# Altium integrated library Lattice CPLD ispMACH.IntLib: 663 symbols (part 12 of 48)
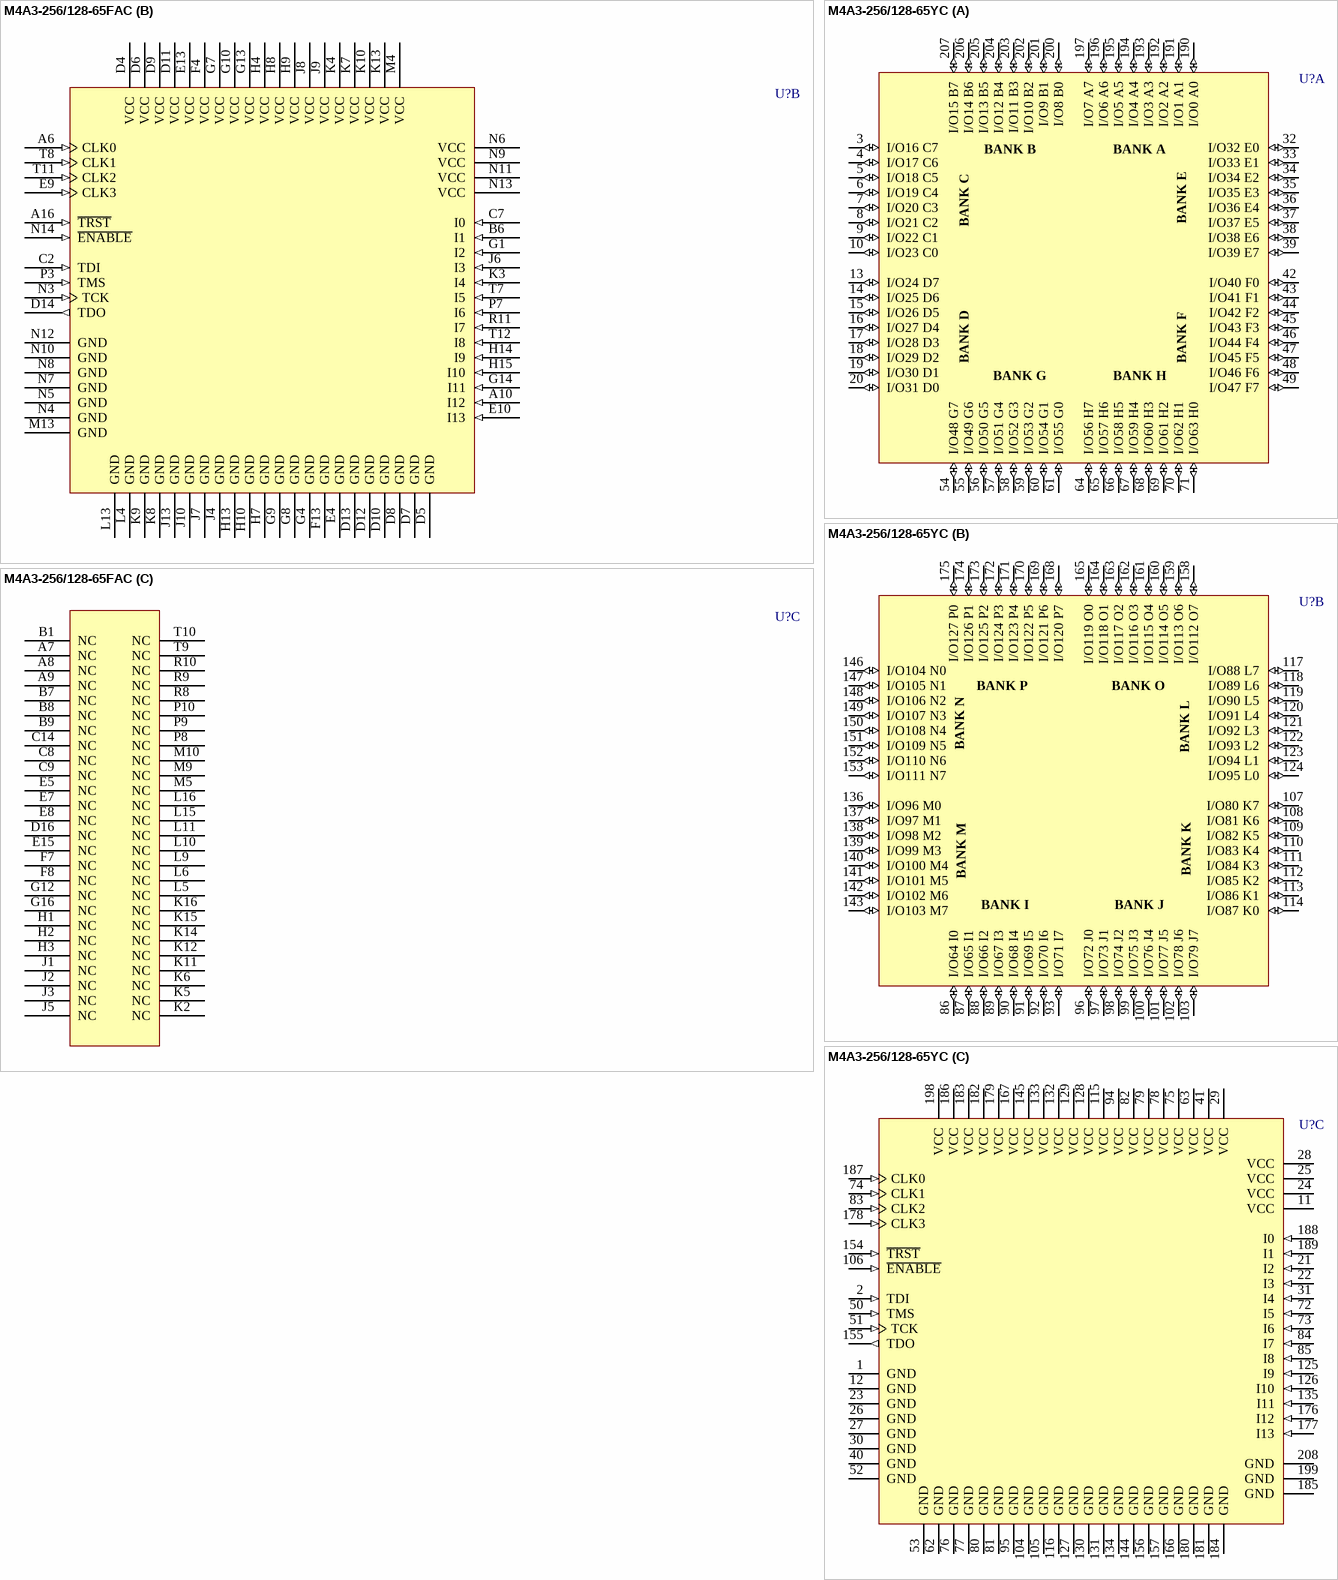
[diagram p317: symbols M4A3-256/128-65FAC to M4A3-256/128-65YC]

## M4A3-256/128-65FAC
designator U?
High-Performance EE CMOS In-System Programmable Logic; Published: 17-Jul-2002; LatestRevisionDate: 13-Apr-2006; LatestRevisionNote: IPC-7351 Footprint Added.; DatasheetVersion: Feb-2001; PackageVersion: pkg_32, Aug-2005; PackageReference: fpBGA256; Publisher: Altium Limited; PackageDescription: 256-Ball Fine Pitch Ball Grid Array (fpBGA256); Code_IPC: BGA100P16X16-256; ComponentLink1Description: Manufacturer Link; ComponentLink1URL: http://www.latticesemi.com/products/mature/index.cfm; ComponentLink2Description: Datasheet; ComponentLink2URL: http://www.latticesemi.com/account/_download.cfm?AMID=1344
footprint fpBGA256 (BGA, 256-Leads, Body 17x17mm, Pitch 1mm)
3D model M4A3-fpBGA256 (256-Ball Fine Pitch Ball Grid Array (fpBGA256))
part A pins: A1 I/O12 B4 (io), A2 I/O10 B2 (io), A3 I/O7 A7 (io), A4 I/O5 A5 (io), A5 I/O1 A1 (io), A11 I/O124 P4 (io), A12 I/O126 P6 (io), A13 I/O113 O1 (io), A14 I/O116 O4 (io), A15 I/O117 O5 (io), B2 I/O13 B5 (io), B3 I/O11 B3 (io), B4 I/O8 B0 (io), B5 I/O2 A2 (io), B10 I/O120 P0 (io), B11 I/O125 P5 (io), B12 I/O127 P7 (io), B13 I/O115 O3 (io), B14 I/O118 O6 (io), B15 I/O111 N7 (io), B16 I/O110 N6 (io), C1 I/O23 C7 (io), C3 I/O14 B6 (io), C4 I/O15 B7 (io), C5 I/O6 A6 (io), C6 I/O4 A4 (io), C10 I/O123 P3 (io), C11 I/O122 P2 (io), C12 I/O114 O2 (io), C13 I/O119 O7 (io), C15 I/O109 N5 (io), C16 I/O108 N4 (io), D1 I/O21 C5 (io), D2 I/O22 C6 (io), D3 I/O9 B1 (io), D15 I/O104 N0 (io), E1 I/O31 D7 (io), E2 I/O19 C3 (io), E3 I/O20 C4 (io), E6 I/O0 A0 (io), E11 I/O106 N2 (io), E12 I/O105 N1 (io), E14 I/O107 N3 (io), E16 I/O102 M6 (io), F1 I/O29 D5 (io), F2 I/O30 D6 (io), F3 I/O16 C0 (io), F5 I/O18 C2 (io), F6 I/O3 A3 (io), F9 I/O121 P1 (io), F10 I/O112 O0 (io), F11 I/O99 M3 (io), F12 I/O100 M4 (io), F14 I/O101 M5 (io), F15 I/O103 M7 (io), F16 I/O98 M2 (io), G2 I/O25 D1 (io), G3 I/O26 D2 (io), G5 I/O28 D4 (io), G6 I/O17 C1 (io), G11 I/O97 M1 (io), G15 I/O96 M0 (io), H5 I/O24 D0 (io), H6 I/O27 D3 (io), H11 I/O90 L2 (io), H12 I/O89 L1 (io), H16 I/O88 L0 (io), J11 I/O94 L6 (io), J12 I/O95 L7 (io), J14 I/O93 L5 (io), J15 I/O92 L4 (io), J16 I/O91 L3 (io), K1 I/O32 E0 (io), L1 I/O33 E1 (io), L2 I/O36 E4 (io), L3 I/O35 E3 (io), L7 I/O61 H5 (io), L8 I/O59 H3 (io), L12 I/O83 K3 (io), L14 I/O80 K0 (io), M1 I/O34 E2 (io), M2 I/O39 E7 (io), M3 I/O44 F4 (io), M6 I/O51 G3 (io), M7 I/O48 G0 (io), M8 I/O58 H2 (io), M11 I/O65 I1 (io), M12 I/O67 I3 (io), M14 I/O84 K4 (io), M15 I/O82 K2 (io), M16 I/O81 K1 (io), N1 I/O37 E5 (io), N2 I/O40 F0 (io), N15 I/O86 K6 (io), N16 I/O85 K5 (io), P1 I/O38 E6 (io), P2 I/O41 F1 (io), P4 I/O55 G7 (io), P5 I/O52 G4 (io), P6 I/O63 H7 (io), P11 I/O66 I2 (io), P12 I/O68 I4 (io), P13 I/O79 J7 (io), P14 I/O78 J6 (io), P15 I/O77 J5 (io), P16 I/O87 K7 (io), R1 I/O42 F2 (io), R2 I/O43 F3 (io), R3 I/O47 F7 (io), R4 I/O53 G5 (io), R5 I/O49 G1 (io), R6 I/O60 H4 (io), R7 I/O56 H0 (io), R12 I/O64 I0 (io), R13 I/O71 I7 (io), R14 I/O72 J0 (io), R15 I/O75 J3 (io), R16 I/O76 J4 (io), T1 I/O45 F5 (io), T2 I/O46 F6 (io), T3 I/O54 G6 (io), T4 I/O50 G2 (io), T5 I/O62 H6 (io), T6 I/O57 H1 (io), T13 I/O69 I5 (io), T14 I/O70 I6 (io), T15 I/O73 J1 (io), T16 I/O74 J2 (io)
part B pins: A6 CLK0 (in), A10 I12 (in), A16 ~{TRST} (in), B6 I1 (in), C2 TDI (in), C7 I0 (in), D4 VCC (power), D5 GND (power), D6 VCC (power), D7 GND (power), D8 GND (power), D9 VCC (power), D10 GND (power), D11 VCC (power), D12 GND (power), D13 GND (power), D14 TDO (out), E4 GND (power), E9 CLK3 (in), E10 I13 (in), E13 VCC (power), F4 VCC (power), F13 GND (power), G1 I2 (in), G4 GND (power), G7 VCC (power), G8 GND (power), G9 GND (power), G10 VCC (power), G13 VCC (power), G14 I11 (in), H4 VCC (power), H7 GND (power), H8 VCC (power), H9 VCC (power), H10 GND (power), H13 GND (power), H14 I9 (in), H15 I10 (in), J4 GND (power), J6 I3 (in), J7 GND (power), J8 VCC (power), J9 VCC (power), J10 GND (power), J13 GND (power), K3 I4 (in), K4 VCC (power), K7 VCC (power), K8 GND (power), K9 GND (power), K10 VCC (power), K13 VCC (power), L4 GND (power), L13 GND (power), M4 VCC (power), M13 GND (power), N3 TCK (in), N4 GND (power), N5 GND (power), N6 VCC (power), N7 GND (power), N8 GND (power), N9 VCC (power), N10 GND (power), N11 VCC (power), N12 GND (power), N13 VCC (power), N14 ~{ENABLE} (in), P3 TMS (in), P7 I6 (in), R11 I7 (in), T7 I5 (in), T8 CLK1 (in), T11 CLK2 (in), T12 I8 (in)
part C pins: A7 NC, A8 NC, A9 NC, B1 NC, B7 NC, B8 NC, B9 NC, C8 NC, C9 NC, C14 NC, D16 NC, E5 NC, E7 NC, E8 NC, E15 NC, F7 NC, F8 NC, G12 NC, G16 NC, H1 NC, H2 NC, H3 NC, J1 NC, J2 NC, J3 NC, J5 NC, K2 NC, K5 NC, K6 NC, K11 NC, K12 NC, K14 NC, K15 NC, K16 NC, L5 NC, L6 NC, L9 NC, L10 NC, L11 NC, L15 NC, L16 NC, M5 NC, M9 NC, M10 NC, P8 NC, P9 NC, P10 NC, R8 NC, R9 NC, R10 NC, T9 NC, T10 NC

## M4A3-256/128-65YC
designator U?
High-Performance EE CMOS In-System Programmable Logic; Published: 17-Jul-2002; LatestRevisionDate: 13-Apr-2006; LatestRevisionNote: IPC-7351 Footprint Added.; DatasheetVersion: Feb-2001; PackageVersion: pkg_32, Aug-2005; PackageReference: PQFP208; Publisher: Altium Limited; PackageDescription: 208-Pin Plastic Quad Flat Pack (PQFP208); Code_JEDEC: MO-143-FAI; ComponentLink1Description: Manufacturer Link; ComponentLink1URL: http://www.latticesemi.com/products/mature/index.cfm; ComponentLink2Description: Datasheet; ComponentLink2URL: http://www.latticesemi.com/account/_download.cfm?AMID=1344
footprint PQFP208_N (Shrink QFP, 208-Leads, Body 28x28mm, Pitch 0.5mm, IPC Medium Density)
footprint PQFP208_L (Shrink QFP, 208-Leads, Body 28x28mm, Pitch 0.5mm, IPC High Density)
footprint PQFP208_M (Shrink QFP, 208-Leads, Body 28x28mm, Pitch 0.5mm, IPC Low Density)
3D model M4A3-PQFP208 (208-Pin Plastic Quad Flat Pack (PQFP208))
part A pins: 3 I/O16 C7 (io), 4 I/O17 C6 (io), 5 I/O18 C5 (io), 6 I/O19 C4 (io), 7 I/O20 C3 (io), 8 I/O21 C2 (io), 9 I/O22 C1 (io), 10 I/O23 C0 (io), 13 I/O24 D7 (io), 14 I/O25 D6 (io), 15 I/O26 D5 (io), 16 I/O27 D4 (io), 17 I/O28 D3 (io), 18 I/O29 D2 (io), 19 I/O30 D1 (io), 20 I/O31 D0 (io), 32 I/O32 E0 (io), 33 I/O33 E1 (io), 34 I/O34 E2 (io), 35 I/O35 E3 (io), 36 I/O36 E4 (io), 37 I/O37 E5 (io), 38 I/O38 E6 (io), 39 I/O39 E7 (io), 42 I/O40 F0 (io), 43 I/O41 F1 (io), 44 I/O42 F2 (io), 45 I/O43 F3 (io), 46 I/O44 F4 (io), 47 I/O45 F5 (io), 48 I/O46 F6 (io), 49 I/O47 F7 (io), 54 I/O48 G7 (io), 55 I/O49 G6 (io), 56 I/O50 G5 (io), 57 I/O51 G4 (io), 58 I/O52 G3 (io), 59 I/O53 G2 (io), 60 I/O54 G1 (io), 61 I/O55 G0 (io), 64 I/O56 H7 (io), 65 I/O57 H6 (io), 66 I/O58 H5 (io), 67 I/O59 H4 (io), 68 I/O60 H3 (io), 69 I/O61 H2 (io), 70 I/O62 H1 (io), 71 I/O63 H0 (io), 190 I/O0 A0 (io), 191 I/O1 A1 (io), 192 I/O2 A2 (io), 193 I/O3 A3 (io), 194 I/O4 A4 (io), 195 I/O5 A5 (io), 196 I/O6 A6 (io), 197 I/O7 A7 (io), 200 I/O8 B0 (io), 201 I/O9 B1 (io), 202 I/O10 B2 (io), 203 I/O11 B3 (io), 204 I/O12 B4 (io), 205 I/O13 B5 (io), 206 I/O14 B6 (io), 207 I/O15 B7 (io)
part B pins: 86 I/O64 I0 (io), 87 I/O65 I1 (io), 88 I/O66 I2 (io), 89 I/O67 I3 (io), 90 I/O68 I4 (io), 91 I/O69 I5 (io), 92 I/O70 I6 (io), 93 I/O71 I7 (io), 96 I/O72 J0 (io), 97 I/O73 J1 (io), 98 I/O74 J2 (io), 99 I/O75 J3 (io), 100 I/O76 J4 (io), 101 I/O77 J5 (io), 102 I/O78 J6 (io), 103 I/O79 J7 (io), 107 I/O80 K7 (io), 108 I/O81 K6 (io), 109 I/O82 K5 (io), 110 I/O83 K4 (io), 111 I/O84 K3 (io), 112 I/O85 K2 (io), 113 I/O86 K1 (io), 114 I/O87 K0 (io), 117 I/O88 L7 (io), 118 I/O89 L6 (io), 119 I/O90 L5 (io), 120 I/O91 L4 (io), 121 I/O92 L3 (io), 122 I/O93 L2 (io), 123 I/O94 L1 (io), 124 I/O95 L0 (io), 136 I/O96 M0 (io), 137 I/O97 M1 (io), 138 I/O98 M2 (io), 139 I/O99 M3 (io), 140 I/O100 M4 (io), 141 I/O101 M5 (io), 142 I/O102 M6 (io), 143 I/O103 M7 (io), 146 I/O104 N0 (io), 147 I/O105 N1 (io), 148 I/O106 N2 (io), 149 I/O107 N3 (io), 150 I/O108 N4 (io), 151 I/O109 N5 (io), 152 I/O110 N6 (io), 153 I/O111 N7 (io), 158 I/O112 O7 (io), 159 I/O113 O6 (io), 160 I/O114 O5 (io), 161 I/O115 O4 (io), 162 I/O116 O3 (io), 163 I/O117 O2 (io), 164 I/O118 O1 (io), 165 I/O119 O0 (io), 168 I/O120 P7 (io), 169 I/O121 P6 (io), 170 I/O122 P5 (io), 171 I/O123 P4 (io), 172 I/O124 P3 (io), 173 I/O125 P2 (io), 174 I/O126 P1 (io), 175 I/O127 P0 (io)
part C pins: 1 GND (power), 2 TDI (in), 11 VCC (power), 12 GND (power), 21 I2 (in), 22 I3 (in), 23 GND (power), 24 VCC (power), 25 VCC (power), 26 GND (power), 27 GND (power), 28 VCC (power), 29 VCC (power), 30 GND (power), 31 I4 (in), 40 GND (power), 41 VCC (power), 50 TMS (in), 51 TCK (in), 52 GND (power), 53 GND (power), 62 GND (power), 63 VCC (power), 72 I5 (in), 73 I6 (in), 74 CLK1 (in), 75 VCC (power), 76 GND (power), 77 GND (power), 78 VCC (power), 79 VCC (power), 80 GND (power), 81 GND (power), 82 VCC (power), 83 CLK2 (in), 84 I7 (in), 85 I8 (in), 94 VCC (power), 95 GND (power), 104 GND (power), 105 GND (power), 106 ~{ENABLE} (in), 115 VCC (power), 116 GND (power), 125 I9 (in), 126 I10 (in), 127 GND (power), 128 VCC (power), 129 VCC (power), 130 GND (power), 131 GND (power), 132 VCC (power), 133 VCC (power), 134 GND (power), 135 I11 (in), 144 GND (power), 145 VCC (power), 154 ~{TRST} (in), 155 TDO (out), 156 GND (power), 157 GND (power), 166 GND (power), 167 VCC (power), 176 I12 (in), 177 I13 (in), 178 CLK3 (in), 179 VCC (power), 180 GND (power), 181 GND (power), 182 VCC (power), 183 VCC (power), 184 GND (power), 185 GND (power), 186 VCC (power), 187 CLK0 (in), 188 I0 (in), 189 I1 (in), 198 VCC (power), 199 GND (power), 208 GND (power)
part A text: BANK B; BANK A; BANK E; BANK C; BANK D; BANK F; BANK G; BANK H
part B text: BANK P; BANK O; BANK N; BANK L; BANK K; BANK M; BANK I; BANK J

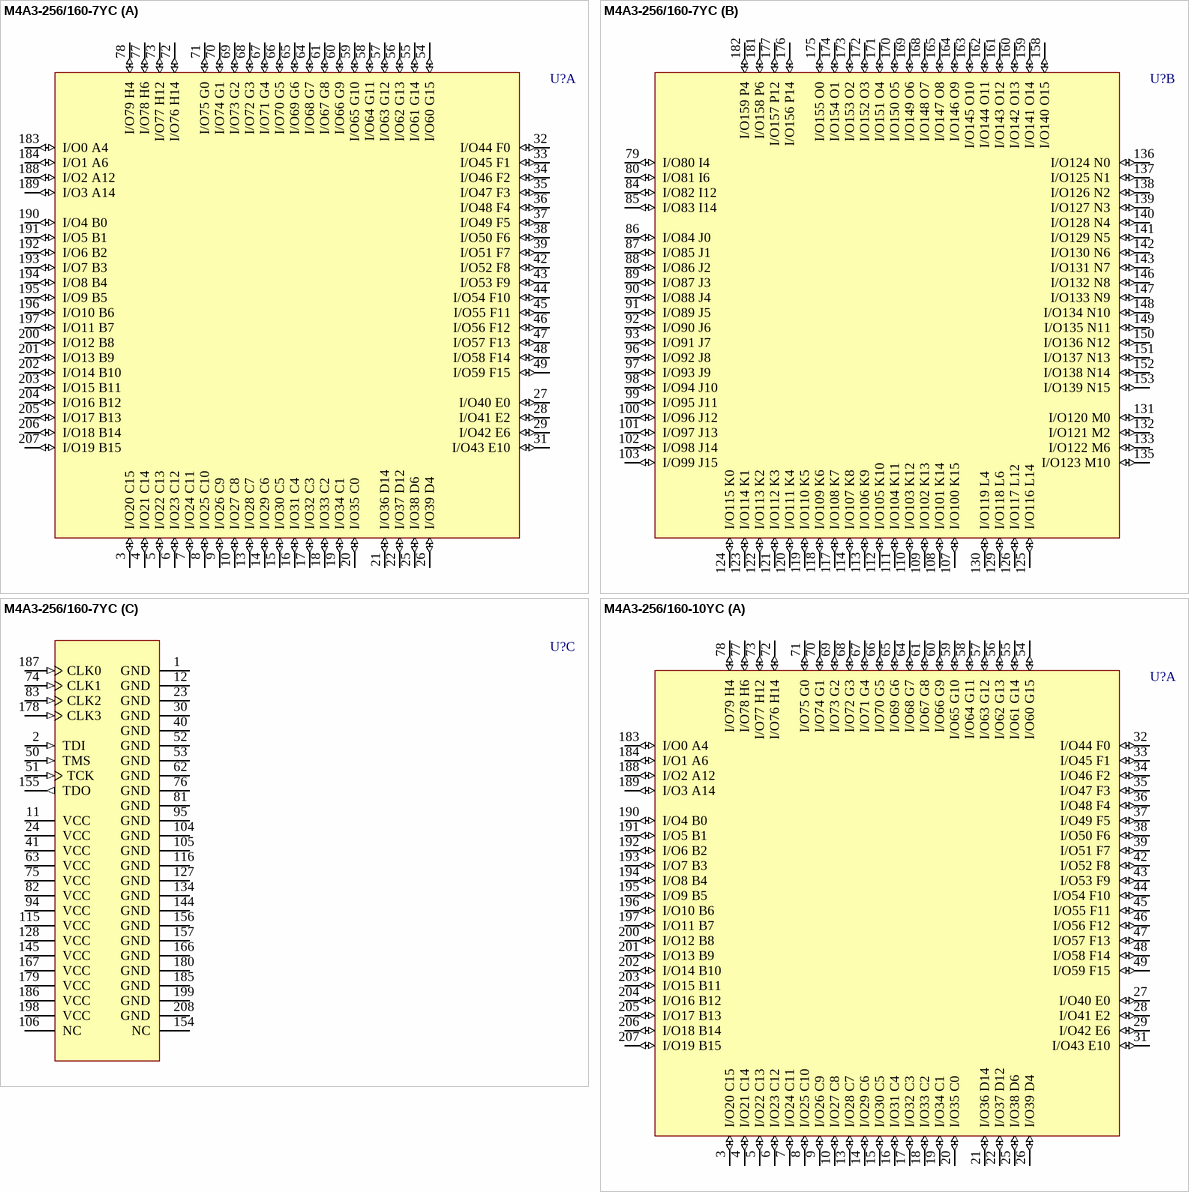
[diagram p70: symbols M4A3-256/160-7YC to M4A3-256/160-10YC]

## M4A3-256/160-7YC
designator U?
High-Performance EE CMOS In-System Programmable Logic; Published: 17-Jul-2002; LatestRevisionDate: 13-Apr-2006; LatestRevisionNote: IPC-7351 Footprint Added.; DatasheetVersion: Feb-2001; PackageVersion: pkg_32, Aug-2005; PackageReference: PQFP208; Publisher: Altium Limited; PackageDescription: 208-Pin Plastic Quad Flat Pack (PQFP208); Code_JEDEC: MO-143-FAI; ComponentLink1Description: Manufacturer Link; ComponentLink1URL: http://www.latticesemi.com/products/mature/index.cfm; ComponentLink2Description: Datasheet; ComponentLink2URL: http://www.latticesemi.com/account/_download.cfm?AMID=1344
footprint PQFP208_N (Shrink QFP, 208-Leads, Body 28x28mm, Pitch 0.5mm, IPC Medium Density)
footprint PQFP208_L (Shrink QFP, 208-Leads, Body 28x28mm, Pitch 0.5mm, IPC High Density)
footprint PQFP208_M (Shrink QFP, 208-Leads, Body 28x28mm, Pitch 0.5mm, IPC Low Density)
3D model M4A3-PQFP208 (208-Pin Plastic Quad Flat Pack (PQFP208))
part A pins: 3 I/O20 C15 (io), 4 I/O21 C14 (io), 5 I/O22 C13 (io), 6 I/O23 C12 (io), 7 I/O24 C11 (io), 8 I/O25 C10 (io), 9 I/O26 C9 (io), 10 I/O27 C8 (io), 13 I/O28 C7 (io), 14 I/O29 C6 (io), 15 I/O30 C5 (io), 16 I/O31 C4 (io), 17 I/O32 C3 (io), 18 I/O33 C2 (io), 19 I/O34 C1 (io), 20 I/O35 C0 (io), 21 I/O36 D14 (io), 22 I/O37 D12 (io), 25 I/O38 D6 (io), 26 I/O39 D4 (io), 27 I/O40 E0 (io), 28 I/O41 E2 (io), 29 I/O42 E6 (io), 31 I/O43 E10 (io), 32 I/O44 F0 (io), 33 I/O45 F1 (io), 34 I/O46 F2 (io), 35 I/O47 F3 (io), 36 I/O48 F4 (io), 37 I/O49 F5 (io), 38 I/O50 F6 (io), 39 I/O51 F7 (io), 42 I/O52 F8 (io), 43 I/O53 F9 (io), 44 I/O54 F10 (io), 45 I/O55 F11 (io), 46 I/O56 F12 (io), 47 I/O57 F13 (io), 48 I/O58 F14 (io), 49 I/O59 F15 (io), 54 I/O60 G15 (io), 55 I/O61 G14 (io), 56 I/O62 G13 (io), 57 I/O63 G12 (io), 58 I/O64 G11 (io), 59 I/O65 G10 (io), 60 I/O66 G9 (io), 61 I/O67 G8 (io), 64 I/O68 G7 (io), 65 I/O69 G6 (io), 66 I/O70 G5 (io), 67 I/O71 G4 (io), 68 I/O72 G3 (io), 69 I/O73 G2 (io), 70 I/O74 G1 (io), 71 I/O75 G0 (io), 72 I/O76 H14 (io), 73 I/O77 H12 (io), 77 I/O78 H6 (io), 78 I/O79 H4 (io), 183 I/O0 A4 (io), 184 I/O1 A6 (io), 188 I/O2 A12 (io), 189 I/O3 A14 (io), 190 I/O4 B0 (io), 191 I/O5 B1 (io), 192 I/O6 B2 (io), 193 I/O7 B3 (io), 194 I/O8 B4 (io), 195 I/O9 B5 (io), 196 I/O10 B6 (io), 197 I/O11 B7 (io), 200 I/O12 B8 (io), 201 I/O13 B9 (io), 202 I/O14 B10 (io), 203 I/O15 B11 (io), 204 I/O16 B12 (io), 205 I/O17 B13 (io), 206 I/O18 B14 (io), 207 I/O19 B15 (io)
part B pins: 79 I/O80 I4 (io), 80 I/O81 I6 (io), 84 I/O82 I12 (io), 85 I/O83 I14 (io), 86 I/O84 J0 (io), 87 I/O85 J1 (io), 88 I/O86 J2 (io), 89 I/O87 J3 (io), 90 I/O88 J4 (io), 91 I/O89 J5 (io), 92 I/O90 J6 (io), 93 I/O91 J7 (io), 96 I/O92 J8 (io), 97 I/O93 J9 (io), 98 I/O94 J10 (io), 99 I/O95 J11 (io), 100 I/O96 J12 (io), 101 I/O97 J13 (io), 102 I/O98 J14 (io), 103 I/O99 J15 (io), 107 I/O100 K15 (io), 108 I/O101 K14 (io), 109 I/O102 K13 (io), 110 I/O103 K12 (io), 111 I/O104 K11 (io), 112 I/O105 K10 (io), 113 I/O106 K9 (io), 114 I/O107 K8 (io), 117 I/O108 K7 (io), 118 I/O109 K6 (io), 119 I/O110 K5 (io), 120 I/O111 K4 (io), 121 I/O112 K3 (io), 122 I/O113 K2 (io), 123 I/O114 K1 (io), 124 I/O115 K0 (io), 125 I/O116 L14 (io), 126 I/O117 L12 (io), 129 I/O118 L6 (io), 130 I/O119 L4 (io), 131 I/O120 M0 (io), 132 I/O121 M2 (io), 133 I/O122 M6 (io), 135 I/O123 M10 (io), 136 I/O124 N0 (io), 137 I/O125 N1 (io), 138 I/O126 N2 (io), 139 I/O127 N3 (io), 140 I/O128 N4 (io), 141 I/O129 N5 (io), 142 I/O130 N6 (io), 143 I/O131 N7 (io), 146 I/O132 N8 (io), 147 I/O133 N9 (io), 148 I/O134 N10 (io), 149 I/O135 N11 (io), 150 I/O136 N12 (io), 151 I/O137 N13 (io), 152 I/O138 N14 (io), 153 I/O139 N15 (io), 158 I/O140 O15 (io), 159 I/O141 O14 (io), 160 I/O142 O13 (io), 161 I/O143 O12 (io), 162 I/O144 O11 (io), 163 I/O145 O10 (io), 164 I/O146 O9 (io), 165 I/O147 O8 (io), 168 I/O148 O7 (io), 169 I/O149 O6 (io), 170 I/O150 O5 (io), 171 I/O151 O4 (io), 172 I/O152 O3 (io), 173 I/O153 O2 (io), 174 I/O154 O1 (io), 175 I/O155 O0 (io), 176 I/O156 P14 (io), 177 I/O157 P12 (io), 181 I/O158 P6 (io), 182 I/O159 P4 (io)
part C pins: 1 GND (power), 2 TDI (in), 11 VCC (power), 12 GND (power), 23 GND (power), 24 VCC (power), 30 GND (power), 40 GND (power), 41 VCC (power), 50 TMS (in), 51 TCK (in), 52 GND (power), 53 GND (power), 62 GND (power), 63 VCC (power), 74 CLK1 (in), 75 VCC (power), 76 GND (power), 81 GND (power), 82 VCC (power), 83 CLK2 (in), 94 VCC (power), 95 GND (power), 104 GND (power), 105 GND (power), 106 NC, 115 VCC (power), 116 GND (power), 127 GND (power), 128 VCC (power), 134 GND (power), 144 GND (power), 145 VCC (power), 154 NC, 155 TDO (out), 156 GND (power), 157 GND (power), 166 GND (power), 167 VCC (power), 178 CLK3 (in), 179 VCC (power), 180 GND (power), 185 GND (power), 186 VCC (power), 187 CLK0 (in), 198 VCC (power), 199 GND (power), 208 GND (power)

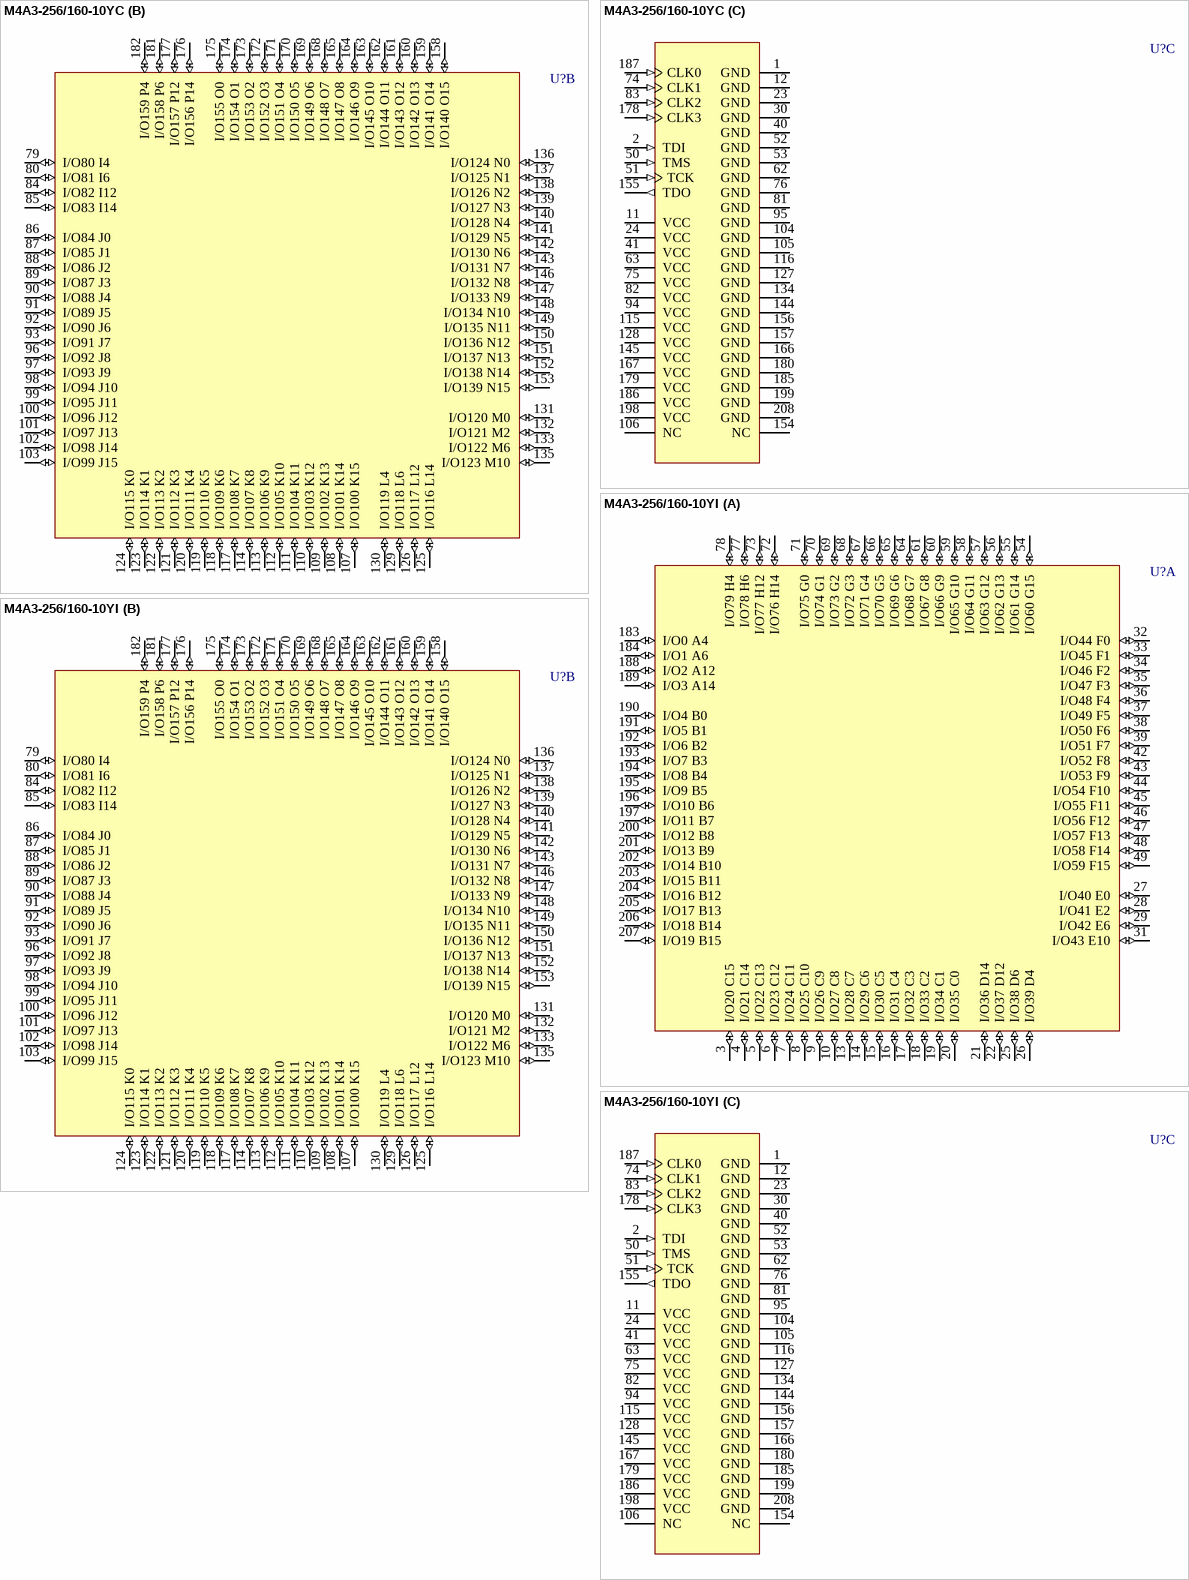
[diagram p71: symbols M4A3-256/160-10YC to M4A3-256/160-10YI]

## M4A3-256/160-10YC
designator U?
High-Performance EE CMOS In-System Programmable Logic; Published: 17-Jul-2002; LatestRevisionDate: 13-Apr-2006; LatestRevisionNote: IPC-7351 Footprint Added.; DatasheetVersion: Feb-2001; PackageVersion: pkg_32, Aug-2005; PackageReference: PQFP208; Publisher: Altium Limited; PackageDescription: 208-Pin Plastic Quad Flat Pack (PQFP208); Code_JEDEC: MO-143-FAI; ComponentLink1Description: Manufacturer Link; ComponentLink1URL: http://www.latticesemi.com/products/mature/index.cfm; ComponentLink2Description: Datasheet; ComponentLink2URL: http://www.latticesemi.com/account/_download.cfm?AMID=1344
footprint PQFP208_N (Shrink QFP, 208-Leads, Body 28x28mm, Pitch 0.5mm, IPC Medium Density)
footprint PQFP208_L (Shrink QFP, 208-Leads, Body 28x28mm, Pitch 0.5mm, IPC High Density)
footprint PQFP208_M (Shrink QFP, 208-Leads, Body 28x28mm, Pitch 0.5mm, IPC Low Density)
3D model M4A3-PQFP208 (208-Pin Plastic Quad Flat Pack (PQFP208))
part A pins: 3 I/O20 C15 (io), 4 I/O21 C14 (io), 5 I/O22 C13 (io), 6 I/O23 C12 (io), 7 I/O24 C11 (io), 8 I/O25 C10 (io), 9 I/O26 C9 (io), 10 I/O27 C8 (io), 13 I/O28 C7 (io), 14 I/O29 C6 (io), 15 I/O30 C5 (io), 16 I/O31 C4 (io), 17 I/O32 C3 (io), 18 I/O33 C2 (io), 19 I/O34 C1 (io), 20 I/O35 C0 (io), 21 I/O36 D14 (io), 22 I/O37 D12 (io), 25 I/O38 D6 (io), 26 I/O39 D4 (io), 27 I/O40 E0 (io), 28 I/O41 E2 (io), 29 I/O42 E6 (io), 31 I/O43 E10 (io), 32 I/O44 F0 (io), 33 I/O45 F1 (io), 34 I/O46 F2 (io), 35 I/O47 F3 (io), 36 I/O48 F4 (io), 37 I/O49 F5 (io), 38 I/O50 F6 (io), 39 I/O51 F7 (io), 42 I/O52 F8 (io), 43 I/O53 F9 (io), 44 I/O54 F10 (io), 45 I/O55 F11 (io), 46 I/O56 F12 (io), 47 I/O57 F13 (io), 48 I/O58 F14 (io), 49 I/O59 F15 (io), 54 I/O60 G15 (io), 55 I/O61 G14 (io), 56 I/O62 G13 (io), 57 I/O63 G12 (io), 58 I/O64 G11 (io), 59 I/O65 G10 (io), 60 I/O66 G9 (io), 61 I/O67 G8 (io), 64 I/O68 G7 (io), 65 I/O69 G6 (io), 66 I/O70 G5 (io), 67 I/O71 G4 (io), 68 I/O72 G3 (io), 69 I/O73 G2 (io), 70 I/O74 G1 (io), 71 I/O75 G0 (io), 72 I/O76 H14 (io), 73 I/O77 H12 (io), 77 I/O78 H6 (io), 78 I/O79 H4 (io), 183 I/O0 A4 (io), 184 I/O1 A6 (io), 188 I/O2 A12 (io), 189 I/O3 A14 (io), 190 I/O4 B0 (io), 191 I/O5 B1 (io), 192 I/O6 B2 (io), 193 I/O7 B3 (io), 194 I/O8 B4 (io), 195 I/O9 B5 (io), 196 I/O10 B6 (io), 197 I/O11 B7 (io), 200 I/O12 B8 (io), 201 I/O13 B9 (io), 202 I/O14 B10 (io), 203 I/O15 B11 (io), 204 I/O16 B12 (io), 205 I/O17 B13 (io), 206 I/O18 B14 (io), 207 I/O19 B15 (io)
part B pins: 79 I/O80 I4 (io), 80 I/O81 I6 (io), 84 I/O82 I12 (io), 85 I/O83 I14 (io), 86 I/O84 J0 (io), 87 I/O85 J1 (io), 88 I/O86 J2 (io), 89 I/O87 J3 (io), 90 I/O88 J4 (io), 91 I/O89 J5 (io), 92 I/O90 J6 (io), 93 I/O91 J7 (io), 96 I/O92 J8 (io), 97 I/O93 J9 (io), 98 I/O94 J10 (io), 99 I/O95 J11 (io), 100 I/O96 J12 (io), 101 I/O97 J13 (io), 102 I/O98 J14 (io), 103 I/O99 J15 (io), 107 I/O100 K15 (io), 108 I/O101 K14 (io), 109 I/O102 K13 (io), 110 I/O103 K12 (io), 111 I/O104 K11 (io), 112 I/O105 K10 (io), 113 I/O106 K9 (io), 114 I/O107 K8 (io), 117 I/O108 K7 (io), 118 I/O109 K6 (io), 119 I/O110 K5 (io), 120 I/O111 K4 (io), 121 I/O112 K3 (io), 122 I/O113 K2 (io), 123 I/O114 K1 (io), 124 I/O115 K0 (io), 125 I/O116 L14 (io), 126 I/O117 L12 (io), 129 I/O118 L6 (io), 130 I/O119 L4 (io), 131 I/O120 M0 (io), 132 I/O121 M2 (io), 133 I/O122 M6 (io), 135 I/O123 M10 (io), 136 I/O124 N0 (io), 137 I/O125 N1 (io), 138 I/O126 N2 (io), 139 I/O127 N3 (io), 140 I/O128 N4 (io), 141 I/O129 N5 (io), 142 I/O130 N6 (io), 143 I/O131 N7 (io), 146 I/O132 N8 (io), 147 I/O133 N9 (io), 148 I/O134 N10 (io), 149 I/O135 N11 (io), 150 I/O136 N12 (io), 151 I/O137 N13 (io), 152 I/O138 N14 (io), 153 I/O139 N15 (io), 158 I/O140 O15 (io), 159 I/O141 O14 (io), 160 I/O142 O13 (io), 161 I/O143 O12 (io), 162 I/O144 O11 (io), 163 I/O145 O10 (io), 164 I/O146 O9 (io), 165 I/O147 O8 (io), 168 I/O148 O7 (io), 169 I/O149 O6 (io), 170 I/O150 O5 (io), 171 I/O151 O4 (io), 172 I/O152 O3 (io), 173 I/O153 O2 (io), 174 I/O154 O1 (io), 175 I/O155 O0 (io), 176 I/O156 P14 (io), 177 I/O157 P12 (io), 181 I/O158 P6 (io), 182 I/O159 P4 (io)
part C pins: 1 GND (power), 2 TDI (in), 11 VCC (power), 12 GND (power), 23 GND (power), 24 VCC (power), 30 GND (power), 40 GND (power), 41 VCC (power), 50 TMS (in), 51 TCK (in), 52 GND (power), 53 GND (power), 62 GND (power), 63 VCC (power), 74 CLK1 (in), 75 VCC (power), 76 GND (power), 81 GND (power), 82 VCC (power), 83 CLK2 (in), 94 VCC (power), 95 GND (power), 104 GND (power), 105 GND (power), 106 NC, 115 VCC (power), 116 GND (power), 127 GND (power), 128 VCC (power), 134 GND (power), 144 GND (power), 145 VCC (power), 154 NC, 155 TDO (out), 156 GND (power), 157 GND (power), 166 GND (power), 167 VCC (power), 178 CLK3 (in), 179 VCC (power), 180 GND (power), 185 GND (power), 186 VCC (power), 187 CLK0 (in), 198 VCC (power), 199 GND (power), 208 GND (power)

## M4A3-256/160-10YI
designator U?
High-Performance EE CMOS In-System Programmable Logic; Published: 17-Jul-2002; LatestRevisionDate: 13-Apr-2006; LatestRevisionNote: IPC-7351 Footprint Added.; DatasheetVersion: Feb-2001; PackageVersion: pkg_32, Aug-2005; PackageReference: PQFP208; Publisher: Altium Limited; PackageDescription: 208-Pin Plastic Quad Flat Pack (PQFP208); Code_JEDEC: MO-143-FAI; ComponentLink1Description: Manufacturer Link; ComponentLink1URL: http://www.latticesemi.com/products/mature/index.cfm; ComponentLink2Description: Datasheet; ComponentLink2URL: http://www.latticesemi.com/account/_download.cfm?AMID=1344
footprint PQFP208_N (Shrink QFP, 208-Leads, Body 28x28mm, Pitch 0.5mm, IPC Medium Density)
footprint PQFP208_L (Shrink QFP, 208-Leads, Body 28x28mm, Pitch 0.5mm, IPC High Density)
footprint PQFP208_M (Shrink QFP, 208-Leads, Body 28x28mm, Pitch 0.5mm, IPC Low Density)
3D model M4A3-PQFP208 (208-Pin Plastic Quad Flat Pack (PQFP208))
part A pins: 3 I/O20 C15 (io), 4 I/O21 C14 (io), 5 I/O22 C13 (io), 6 I/O23 C12 (io), 7 I/O24 C11 (io), 8 I/O25 C10 (io), 9 I/O26 C9 (io), 10 I/O27 C8 (io), 13 I/O28 C7 (io), 14 I/O29 C6 (io), 15 I/O30 C5 (io), 16 I/O31 C4 (io), 17 I/O32 C3 (io), 18 I/O33 C2 (io), 19 I/O34 C1 (io), 20 I/O35 C0 (io), 21 I/O36 D14 (io), 22 I/O37 D12 (io), 25 I/O38 D6 (io), 26 I/O39 D4 (io), 27 I/O40 E0 (io), 28 I/O41 E2 (io), 29 I/O42 E6 (io), 31 I/O43 E10 (io), 32 I/O44 F0 (io), 33 I/O45 F1 (io), 34 I/O46 F2 (io), 35 I/O47 F3 (io), 36 I/O48 F4 (io), 37 I/O49 F5 (io), 38 I/O50 F6 (io), 39 I/O51 F7 (io), 42 I/O52 F8 (io), 43 I/O53 F9 (io), 44 I/O54 F10 (io), 45 I/O55 F11 (io), 46 I/O56 F12 (io), 47 I/O57 F13 (io), 48 I/O58 F14 (io), 49 I/O59 F15 (io), 54 I/O60 G15 (io), 55 I/O61 G14 (io), 56 I/O62 G13 (io), 57 I/O63 G12 (io), 58 I/O64 G11 (io), 59 I/O65 G10 (io), 60 I/O66 G9 (io), 61 I/O67 G8 (io), 64 I/O68 G7 (io), 65 I/O69 G6 (io), 66 I/O70 G5 (io), 67 I/O71 G4 (io), 68 I/O72 G3 (io), 69 I/O73 G2 (io), 70 I/O74 G1 (io), 71 I/O75 G0 (io), 72 I/O76 H14 (io), 73 I/O77 H12 (io), 77 I/O78 H6 (io), 78 I/O79 H4 (io), 183 I/O0 A4 (io), 184 I/O1 A6 (io), 188 I/O2 A12 (io), 189 I/O3 A14 (io), 190 I/O4 B0 (io), 191 I/O5 B1 (io), 192 I/O6 B2 (io), 193 I/O7 B3 (io), 194 I/O8 B4 (io), 195 I/O9 B5 (io), 196 I/O10 B6 (io), 197 I/O11 B7 (io), 200 I/O12 B8 (io), 201 I/O13 B9 (io), 202 I/O14 B10 (io), 203 I/O15 B11 (io), 204 I/O16 B12 (io), 205 I/O17 B13 (io), 206 I/O18 B14 (io), 207 I/O19 B15 (io)
part B pins: 79 I/O80 I4 (io), 80 I/O81 I6 (io), 84 I/O82 I12 (io), 85 I/O83 I14 (io), 86 I/O84 J0 (io), 87 I/O85 J1 (io), 88 I/O86 J2 (io), 89 I/O87 J3 (io), 90 I/O88 J4 (io), 91 I/O89 J5 (io), 92 I/O90 J6 (io), 93 I/O91 J7 (io), 96 I/O92 J8 (io), 97 I/O93 J9 (io), 98 I/O94 J10 (io), 99 I/O95 J11 (io), 100 I/O96 J12 (io), 101 I/O97 J13 (io), 102 I/O98 J14 (io), 103 I/O99 J15 (io), 107 I/O100 K15 (io), 108 I/O101 K14 (io), 109 I/O102 K13 (io), 110 I/O103 K12 (io), 111 I/O104 K11 (io), 112 I/O105 K10 (io), 113 I/O106 K9 (io), 114 I/O107 K8 (io), 117 I/O108 K7 (io), 118 I/O109 K6 (io), 119 I/O110 K5 (io), 120 I/O111 K4 (io), 121 I/O112 K3 (io), 122 I/O113 K2 (io), 123 I/O114 K1 (io), 124 I/O115 K0 (io), 125 I/O116 L14 (io), 126 I/O117 L12 (io), 129 I/O118 L6 (io), 130 I/O119 L4 (io), 131 I/O120 M0 (io), 132 I/O121 M2 (io), 133 I/O122 M6 (io), 135 I/O123 M10 (io), 136 I/O124 N0 (io), 137 I/O125 N1 (io), 138 I/O126 N2 (io), 139 I/O127 N3 (io), 140 I/O128 N4 (io), 141 I/O129 N5 (io), 142 I/O130 N6 (io), 143 I/O131 N7 (io), 146 I/O132 N8 (io), 147 I/O133 N9 (io), 148 I/O134 N10 (io), 149 I/O135 N11 (io), 150 I/O136 N12 (io), 151 I/O137 N13 (io), 152 I/O138 N14 (io), 153 I/O139 N15 (io), 158 I/O140 O15 (io), 159 I/O141 O14 (io), 160 I/O142 O13 (io), 161 I/O143 O12 (io), 162 I/O144 O11 (io), 163 I/O145 O10 (io), 164 I/O146 O9 (io), 165 I/O147 O8 (io), 168 I/O148 O7 (io), 169 I/O149 O6 (io), 170 I/O150 O5 (io), 171 I/O151 O4 (io), 172 I/O152 O3 (io), 173 I/O153 O2 (io), 174 I/O154 O1 (io), 175 I/O155 O0 (io), 176 I/O156 P14 (io), 177 I/O157 P12 (io), 181 I/O158 P6 (io), 182 I/O159 P4 (io)
part C pins: 1 GND (power), 2 TDI (in), 11 VCC (power), 12 GND (power), 23 GND (power), 24 VCC (power), 30 GND (power), 40 GND (power), 41 VCC (power), 50 TMS (in), 51 TCK (in), 52 GND (power), 53 GND (power), 62 GND (power), 63 VCC (power), 74 CLK1 (in), 75 VCC (power), 76 GND (power), 81 GND (power), 82 VCC (power), 83 CLK2 (in), 94 VCC (power), 95 GND (power), 104 GND (power), 105 GND (power), 106 NC, 115 VCC (power), 116 GND (power), 127 GND (power), 128 VCC (power), 134 GND (power), 144 GND (power), 145 VCC (power), 154 NC, 155 TDO (out), 156 GND (power), 157 GND (power), 166 GND (power), 167 VCC (power), 178 CLK3 (in), 179 VCC (power), 180 GND (power), 185 GND (power), 186 VCC (power), 187 CLK0 (in), 198 VCC (power), 199 GND (power), 208 GND (power)

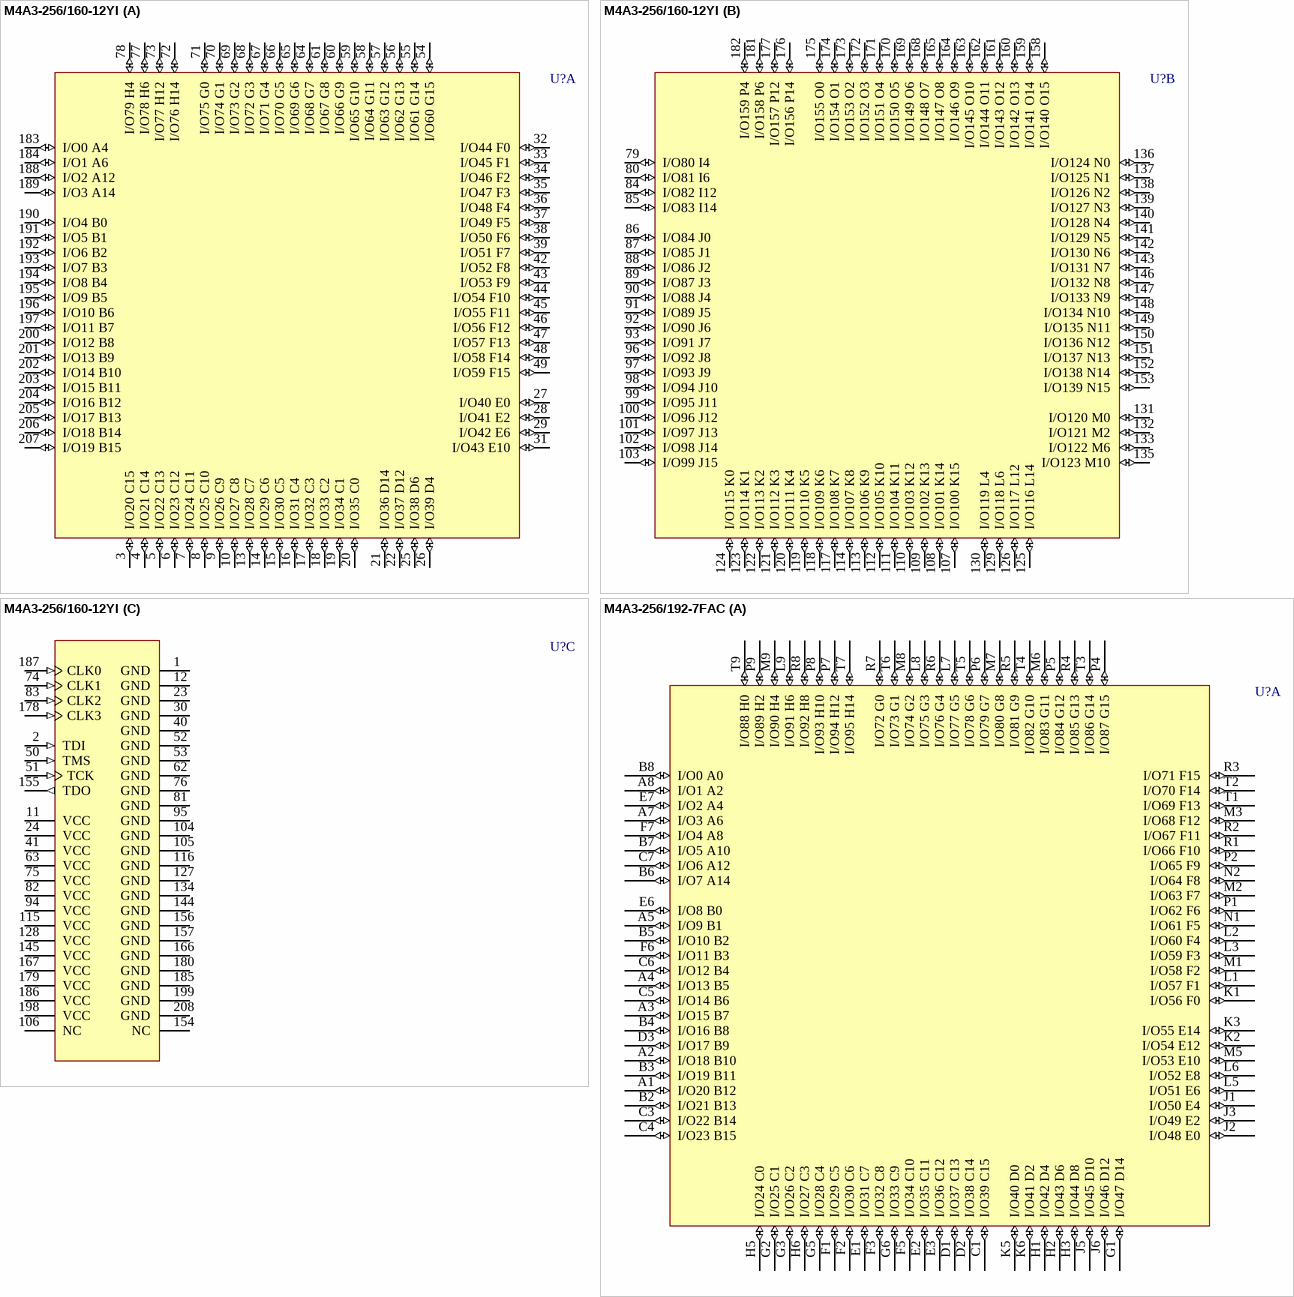
[diagram p72: symbols M4A3-256/160-12YI to M4A3-256/192-7FAC]

## M4A3-256/160-12YI
designator U?
High-Performance EE CMOS In-System Programmable Logic; Published: 17-Jul-2002; LatestRevisionDate: 13-Apr-2006; LatestRevisionNote: IPC-7351 Footprint Added.; DatasheetVersion: Feb-2001; PackageVersion: pkg_32, Aug-2005; PackageReference: PQFP208; Publisher: Altium Limited; PackageDescription: 208-Pin Plastic Quad Flat Pack (PQFP208); Code_JEDEC: MO-143-FAI; ComponentLink1Description: Manufacturer Link; ComponentLink1URL: http://www.latticesemi.com/products/mature/index.cfm; ComponentLink2Description: Datasheet; ComponentLink2URL: http://www.latticesemi.com/account/_download.cfm?AMID=1344
footprint PQFP208_N (Shrink QFP, 208-Leads, Body 28x28mm, Pitch 0.5mm, IPC Medium Density)
footprint PQFP208_L (Shrink QFP, 208-Leads, Body 28x28mm, Pitch 0.5mm, IPC High Density)
footprint PQFP208_M (Shrink QFP, 208-Leads, Body 28x28mm, Pitch 0.5mm, IPC Low Density)
3D model M4A3-PQFP208 (208-Pin Plastic Quad Flat Pack (PQFP208))
part A pins: 3 I/O20 C15 (io), 4 I/O21 C14 (io), 5 I/O22 C13 (io), 6 I/O23 C12 (io), 7 I/O24 C11 (io), 8 I/O25 C10 (io), 9 I/O26 C9 (io), 10 I/O27 C8 (io), 13 I/O28 C7 (io), 14 I/O29 C6 (io), 15 I/O30 C5 (io), 16 I/O31 C4 (io), 17 I/O32 C3 (io), 18 I/O33 C2 (io), 19 I/O34 C1 (io), 20 I/O35 C0 (io), 21 I/O36 D14 (io), 22 I/O37 D12 (io), 25 I/O38 D6 (io), 26 I/O39 D4 (io), 27 I/O40 E0 (io), 28 I/O41 E2 (io), 29 I/O42 E6 (io), 31 I/O43 E10 (io), 32 I/O44 F0 (io), 33 I/O45 F1 (io), 34 I/O46 F2 (io), 35 I/O47 F3 (io), 36 I/O48 F4 (io), 37 I/O49 F5 (io), 38 I/O50 F6 (io), 39 I/O51 F7 (io), 42 I/O52 F8 (io), 43 I/O53 F9 (io), 44 I/O54 F10 (io), 45 I/O55 F11 (io), 46 I/O56 F12 (io), 47 I/O57 F13 (io), 48 I/O58 F14 (io), 49 I/O59 F15 (io), 54 I/O60 G15 (io), 55 I/O61 G14 (io), 56 I/O62 G13 (io), 57 I/O63 G12 (io), 58 I/O64 G11 (io), 59 I/O65 G10 (io), 60 I/O66 G9 (io), 61 I/O67 G8 (io), 64 I/O68 G7 (io), 65 I/O69 G6 (io), 66 I/O70 G5 (io), 67 I/O71 G4 (io), 68 I/O72 G3 (io), 69 I/O73 G2 (io), 70 I/O74 G1 (io), 71 I/O75 G0 (io), 72 I/O76 H14 (io), 73 I/O77 H12 (io), 77 I/O78 H6 (io), 78 I/O79 H4 (io), 183 I/O0 A4 (io), 184 I/O1 A6 (io), 188 I/O2 A12 (io), 189 I/O3 A14 (io), 190 I/O4 B0 (io), 191 I/O5 B1 (io), 192 I/O6 B2 (io), 193 I/O7 B3 (io), 194 I/O8 B4 (io), 195 I/O9 B5 (io), 196 I/O10 B6 (io), 197 I/O11 B7 (io), 200 I/O12 B8 (io), 201 I/O13 B9 (io), 202 I/O14 B10 (io), 203 I/O15 B11 (io), 204 I/O16 B12 (io), 205 I/O17 B13 (io), 206 I/O18 B14 (io), 207 I/O19 B15 (io)
part B pins: 79 I/O80 I4 (io), 80 I/O81 I6 (io), 84 I/O82 I12 (io), 85 I/O83 I14 (io), 86 I/O84 J0 (io), 87 I/O85 J1 (io), 88 I/O86 J2 (io), 89 I/O87 J3 (io), 90 I/O88 J4 (io), 91 I/O89 J5 (io), 92 I/O90 J6 (io), 93 I/O91 J7 (io), 96 I/O92 J8 (io), 97 I/O93 J9 (io), 98 I/O94 J10 (io), 99 I/O95 J11 (io), 100 I/O96 J12 (io), 101 I/O97 J13 (io), 102 I/O98 J14 (io), 103 I/O99 J15 (io), 107 I/O100 K15 (io), 108 I/O101 K14 (io), 109 I/O102 K13 (io), 110 I/O103 K12 (io), 111 I/O104 K11 (io), 112 I/O105 K10 (io), 113 I/O106 K9 (io), 114 I/O107 K8 (io), 117 I/O108 K7 (io), 118 I/O109 K6 (io), 119 I/O110 K5 (io), 120 I/O111 K4 (io), 121 I/O112 K3 (io), 122 I/O113 K2 (io), 123 I/O114 K1 (io), 124 I/O115 K0 (io), 125 I/O116 L14 (io), 126 I/O117 L12 (io), 129 I/O118 L6 (io), 130 I/O119 L4 (io), 131 I/O120 M0 (io), 132 I/O121 M2 (io), 133 I/O122 M6 (io), 135 I/O123 M10 (io), 136 I/O124 N0 (io), 137 I/O125 N1 (io), 138 I/O126 N2 (io), 139 I/O127 N3 (io), 140 I/O128 N4 (io), 141 I/O129 N5 (io), 142 I/O130 N6 (io), 143 I/O131 N7 (io), 146 I/O132 N8 (io), 147 I/O133 N9 (io), 148 I/O134 N10 (io), 149 I/O135 N11 (io), 150 I/O136 N12 (io), 151 I/O137 N13 (io), 152 I/O138 N14 (io), 153 I/O139 N15 (io), 158 I/O140 O15 (io), 159 I/O141 O14 (io), 160 I/O142 O13 (io), 161 I/O143 O12 (io), 162 I/O144 O11 (io), 163 I/O145 O10 (io), 164 I/O146 O9 (io), 165 I/O147 O8 (io), 168 I/O148 O7 (io), 169 I/O149 O6 (io), 170 I/O150 O5 (io), 171 I/O151 O4 (io), 172 I/O152 O3 (io), 173 I/O153 O2 (io), 174 I/O154 O1 (io), 175 I/O155 O0 (io), 176 I/O156 P14 (io), 177 I/O157 P12 (io), 181 I/O158 P6 (io), 182 I/O159 P4 (io)
part C pins: 1 GND (power), 2 TDI (in), 11 VCC (power), 12 GND (power), 23 GND (power), 24 VCC (power), 30 GND (power), 40 GND (power), 41 VCC (power), 50 TMS (in), 51 TCK (in), 52 GND (power), 53 GND (power), 62 GND (power), 63 VCC (power), 74 CLK1 (in), 75 VCC (power), 76 GND (power), 81 GND (power), 82 VCC (power), 83 CLK2 (in), 94 VCC (power), 95 GND (power), 104 GND (power), 105 GND (power), 106 NC, 115 VCC (power), 116 GND (power), 127 GND (power), 128 VCC (power), 134 GND (power), 144 GND (power), 145 VCC (power), 154 NC, 155 TDO (out), 156 GND (power), 157 GND (power), 166 GND (power), 167 VCC (power), 178 CLK3 (in), 179 VCC (power), 180 GND (power), 185 GND (power), 186 VCC (power), 187 CLK0 (in), 198 VCC (power), 199 GND (power), 208 GND (power)

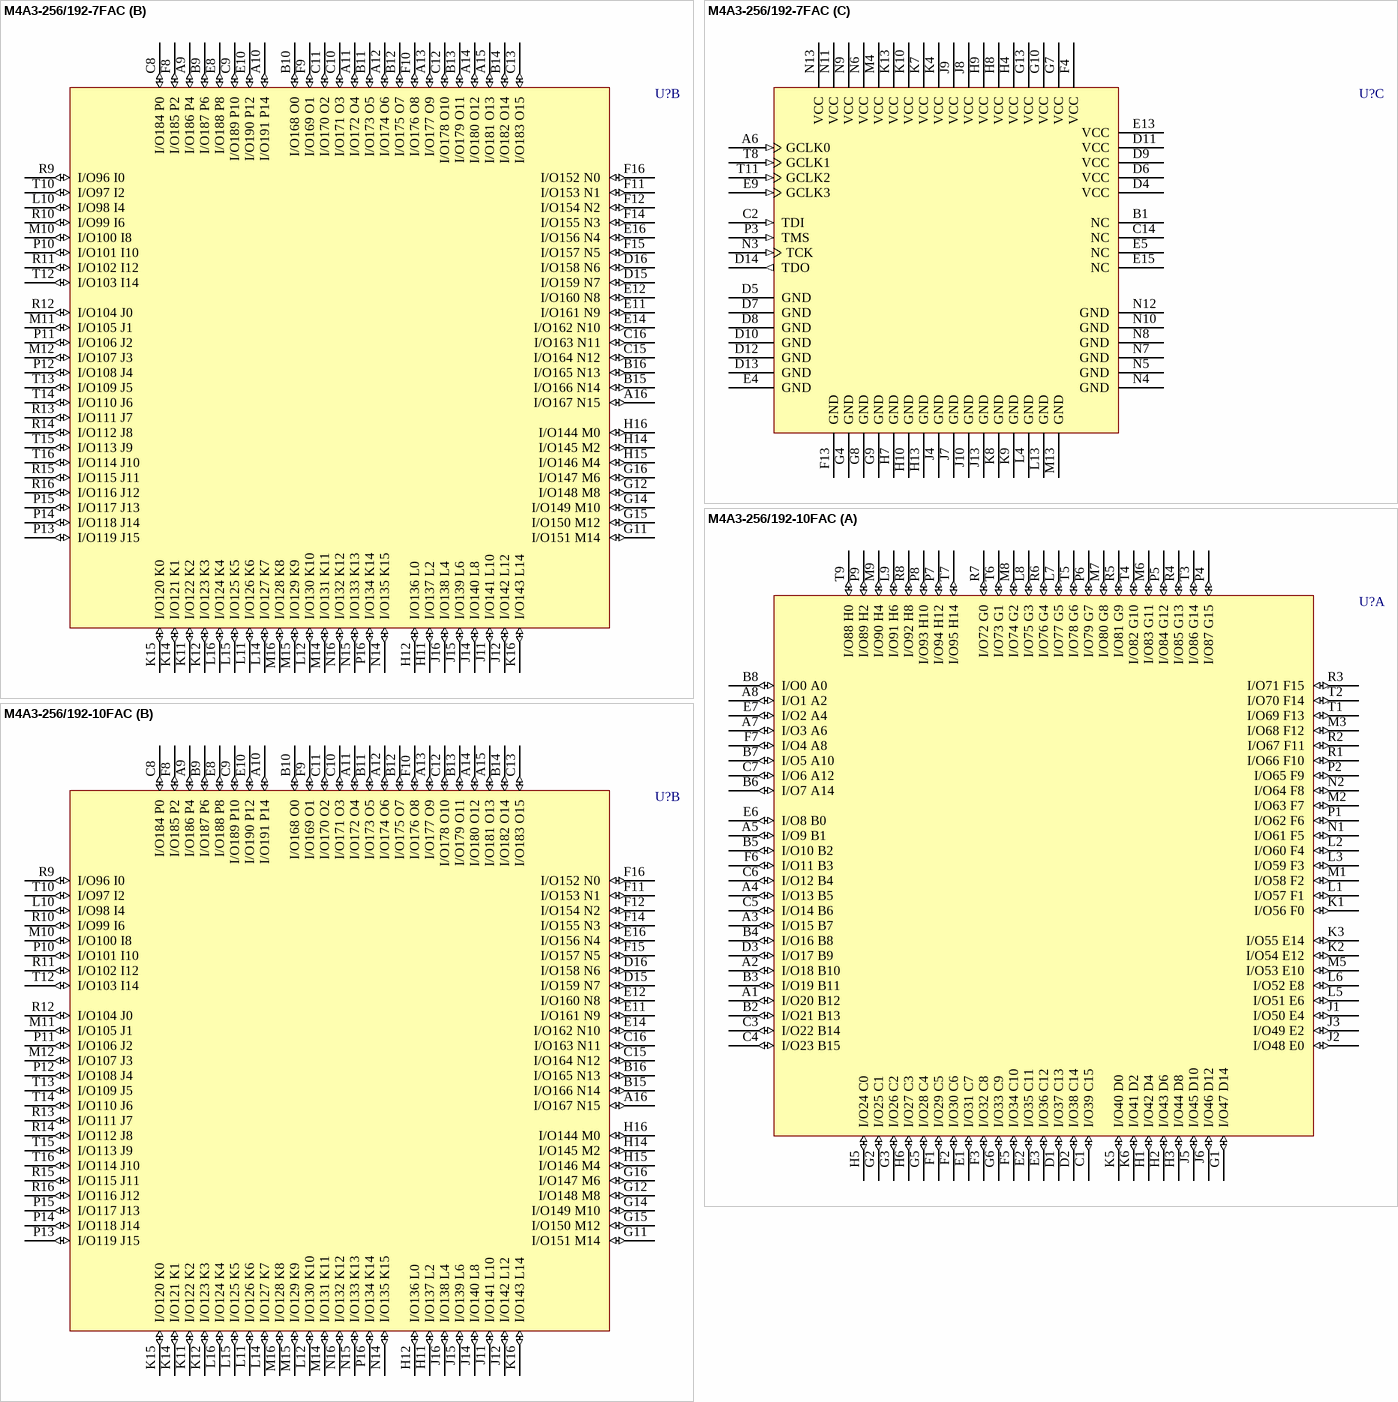
[diagram p73: symbols M4A3-256/192-7FAC to M4A3-256/192-10FAC]

## M4A3-256/192-7FAC
designator U?
High-Performance EE CMOS In-System Programmable Logic; Published: 17-Jul-2002; LatestRevisionDate: 13-Apr-2006; LatestRevisionNote: IPC-7351 Footprint Added.; DatasheetVersion: Feb-2001; PackageVersion: pkg_32, Aug-2005; PackageReference: fpBGA256; Publisher: Altium Limited; PackageDescription: 256-Ball Fine Pitch Ball Grid Array (fpBGA256); Code_IPC: BGA100P16X16-256; ComponentLink1Description: Manufacturer Link; ComponentLink1URL: http://www.latticesemi.com/products/mature/index.cfm; ComponentLink2Description: Datasheet; ComponentLink2URL: http://www.latticesemi.com/account/_download.cfm?AMID=1344
footprint fpBGA256 (BGA, 256-Leads, Body 17x17mm, Pitch 1mm)
3D model M4A3-fpBGA256 (256-Ball Fine Pitch Ball Grid Array (fpBGA256))
part A pins: A1 I/O20 B12 (io), A2 I/O18 B10 (io), A3 I/O15 B7 (io), A4 I/O13 B5 (io), A5 I/O9 B1 (io), A7 I/O3 A6 (io), A8 I/O1 A2 (io), B2 I/O21 B13 (io), B3 I/O19 B11 (io), B4 I/O16 B8 (io), B5 I/O10 B2 (io), B6 I/O7 A14 (io), B7 I/O5 A10 (io), B8 I/O0 A0 (io), C1 I/O39 C15 (io), C3 I/O22 B14 (io), C4 I/O23 B15 (io), C5 I/O14 B6 (io), C6 I/O12 B4 (io), C7 I/O6 A12 (io), D1 I/O37 C13 (io), D2 I/O38 C14 (io), D3 I/O17 B9 (io), E1 I/O31 C7 (io), E2 I/O35 C11 (io), E3 I/O36 C12 (io), E6 I/O8 B0 (io), E7 I/O2 A4 (io), F1 I/O29 C5 (io), F2 I/O30 C6 (io), F3 I/O32 C8 (io), F5 I/O34 C10 (io), F6 I/O11 B3 (io), F7 I/O4 A8 (io), G1 I/O47 D14 (io), G2 I/O25 C1 (io), G3 I/O26 C2 (io), G5 I/O28 C4 (io), G6 I/O33 C9 (io), H1 I/O42 D4 (io), H2 I/O43 D6 (io), H3 I/O44 D8 (io), H5 I/O24 C0 (io), H6 I/O27 C3 (io), J1 I/O50 E4 (io), J2 I/O48 E0 (io), J3 I/O49 E2 (io), J5 I/O45 D10 (io), J6 I/O46 D12 (io), K1 I/O56 F0 (io), K2 I/O54 E12 (io), K3 I/O55 E14 (io), K5 I/O40 D0 (io), K6 I/O41 D2 (io), L1 I/O57 F1 (io), L2 I/O60 F4 (io), L3 I/O59 F3 (io), L5 I/O51 E6 (io), L6 I/O52 E8 (io), L7 I/O77 G5 (io), L8 I/O75 G3 (io), L9 I/O91 H6 (io), M1 I/O58 F2 (io), M2 I/O63 F7 (io), M3 I/O68 F12 (io), M5 I/O53 E10 (io), M6 I/O83 G11 (io), M7 I/O80 G8 (io), M8 I/O74 G2 (io), M9 I/O90 H4 (io), N1 I/O61 F5 (io), N2 I/O64 F8 (io), P1 I/O62 F6 (io), P2 I/O65 F9 (io), P4 I/O87 G15 (io), P5 I/O84 G12 (io), P6 I/O79 G7 (io), P7 I/O94 H12 (io), P8 I/O93 H10 (io), P9 I/O89 H2 (io), R1 I/O66 F10 (io), R2 I/O67 F11 (io), R3 I/O71 F15 (io), R4 I/O85 G13 (io), R5 I/O81 G9 (io), R6 I/O76 G4 (io), R7 I/O72 G0 (io), R8 I/O92 H8 (io), T1 I/O69 F13 (io), T2 I/O70 F14 (io), T3 I/O86 G14 (io), T4 I/O82 G10 (io), T5 I/O78 G6 (io), T6 I/O73 G1 (io), T7 I/O95 H14 (io), T9 I/O88 H0 (io)
part B pins: A9 I/O186 P4 (io), A10 I/O191 P14 (io), A11 I/O172 O4 (io), A12 I/O174 O6 (io), A13 I/O177 O9 (io), A14 I/O180 O12 (io), A15 I/O181 O13 (io), A16 I/O167 N15 (io), B9 I/O187 P6 (io), B10 I/O168 O0 (io), B11 I/O173 O5 (io), B12 I/O175 O7 (io), B13 I/O179 O11 (io), B14 I/O182 O14 (io), B15 I/O166 N14 (io), B16 I/O165 N13 (io), C8 I/O184 P0 (io), C9 I/O189 P10 (io), C10 I/O171 O3 (io), C11 I/O170 O2 (io), C12 I/O178 O10 (io), C13 I/O183 O15 (io), C15 I/O164 N12 (io), C16 I/O163 N11 (io), D15 I/O159 N7 (io), D16 I/O158 N6 (io), E8 I/O188 P8 (io), E10 I/O190 P12 (io), E11 I/O161 N9 (io), E12 I/O160 N8 (io), E14 I/O162 N10 (io), E16 I/O156 N4 (io), F8 I/O185 P2 (io), F9 I/O169 O1 (io), F10 I/O176 O8 (io), F11 I/O153 N1 (io), F12 I/O154 N2 (io), F14 I/O155 N3 (io), F15 I/O157 N5 (io), F16 I/O152 N0 (io), G11 I/O151 M14 (io), G12 I/O148 M8 (io), G14 I/O149 M10 (io), G15 I/O150 M12 (io), G16 I/O147 M6 (io), H11 I/O137 L2 (io), H12 I/O136 L0 (io), H14 I/O145 M2 (io), H15 I/O146 M4 (io), H16 I/O144 M0 (io), J11 I/O141 L10 (io), J12 I/O142 L12 (io), J14 I/O140 L8 (io), J15 I/O139 L6 (io), J16 I/O138 L4 (io), K11 I/O122 K2 (io), K12 I/O123 K3 (io), K14 I/O121 K1 (io), K15 I/O120 K0 (io), K16 I/O143 L14 (io), L10 I/O98 I4 (io), L11 I/O126 K6 (io), L12 I/O130 K10 (io), L14 I/O127 K7 (io), L15 I/O125 K5 (io), L16 I/O124 K4 (io), M10 I/O100 I8 (io), M11 I/O105 J1 (io), M12 I/O107 J3 (io), M14 I/O131 K11 (io), M15 I/O129 K9 (io), M16 I/O128 K8 (io), N14 I/O135 K15 (io), N15 I/O133 K13 (io), N16 I/O132 K12 (io), P10 I/O101 I10 (io), P11 I/O106 J2 (io), P12 I/O108 J4 (io), P13 I/O119 J15 (io), P14 I/O118 J14 (io), P15 I/O117 J13 (io), P16 I/O134 K14 (io), R9 I/O96 I0 (io), R10 I/O99 I6 (io), R11 I/O102 I12 (io), R12 I/O104 J0 (io), R13 I/O111 J7 (io), R14 I/O112 J8 (io), R15 I/O115 J11 (io), R16 I/O116 J12 (io), T10 I/O97 I2 (io), T12 I/O103 I14 (io), T13 I/O109 J5 (io), T14 I/O110 J6 (io), T15 I/O113 J9 (io), T16 I/O114 J10 (io)
part C pins: A6 GCLK0 (in), B1 NC, C2 TDI (in), C14 NC, D4 VCC (power), D5 GND (power), D6 VCC (power), D7 GND (power), D8 GND (power), D9 VCC (power), D10 GND (power), D11 VCC (power), D12 GND (power), D13 GND (power), D14 TDO (out), E4 GND (power), E5 NC, E9 GCLK3 (in), E13 VCC (power), E15 NC, F4 VCC (power), F13 GND (power), G4 GND (power), G7 VCC (power), G8 GND (power), G9 GND (power), G10 VCC (power), G13 VCC (power), H4 VCC (power), H7 GND (power), H8 VCC (power), H9 VCC (power), H10 GND (power), H13 GND (power), J4 GND (power), J7 GND (power), J8 VCC (power), J9 VCC (power), J10 GND (power), J13 GND (power), K4 VCC (power), K7 VCC (power), K8 GND (power), K9 GND (power), K10 VCC (power), K13 VCC (power), L4 GND (power), L13 GND (power), M4 VCC (power), M13 GND (power), N3 TCK (in), N4 GND (power), N5 GND (power), N6 VCC (power), N7 GND (power), N8 GND (power), N9 VCC (power), N10 GND (power), N11 VCC (power), N12 GND (power), N13 VCC (power), P3 TMS (in), T8 GCLK1 (in), T11 GCLK2 (in)

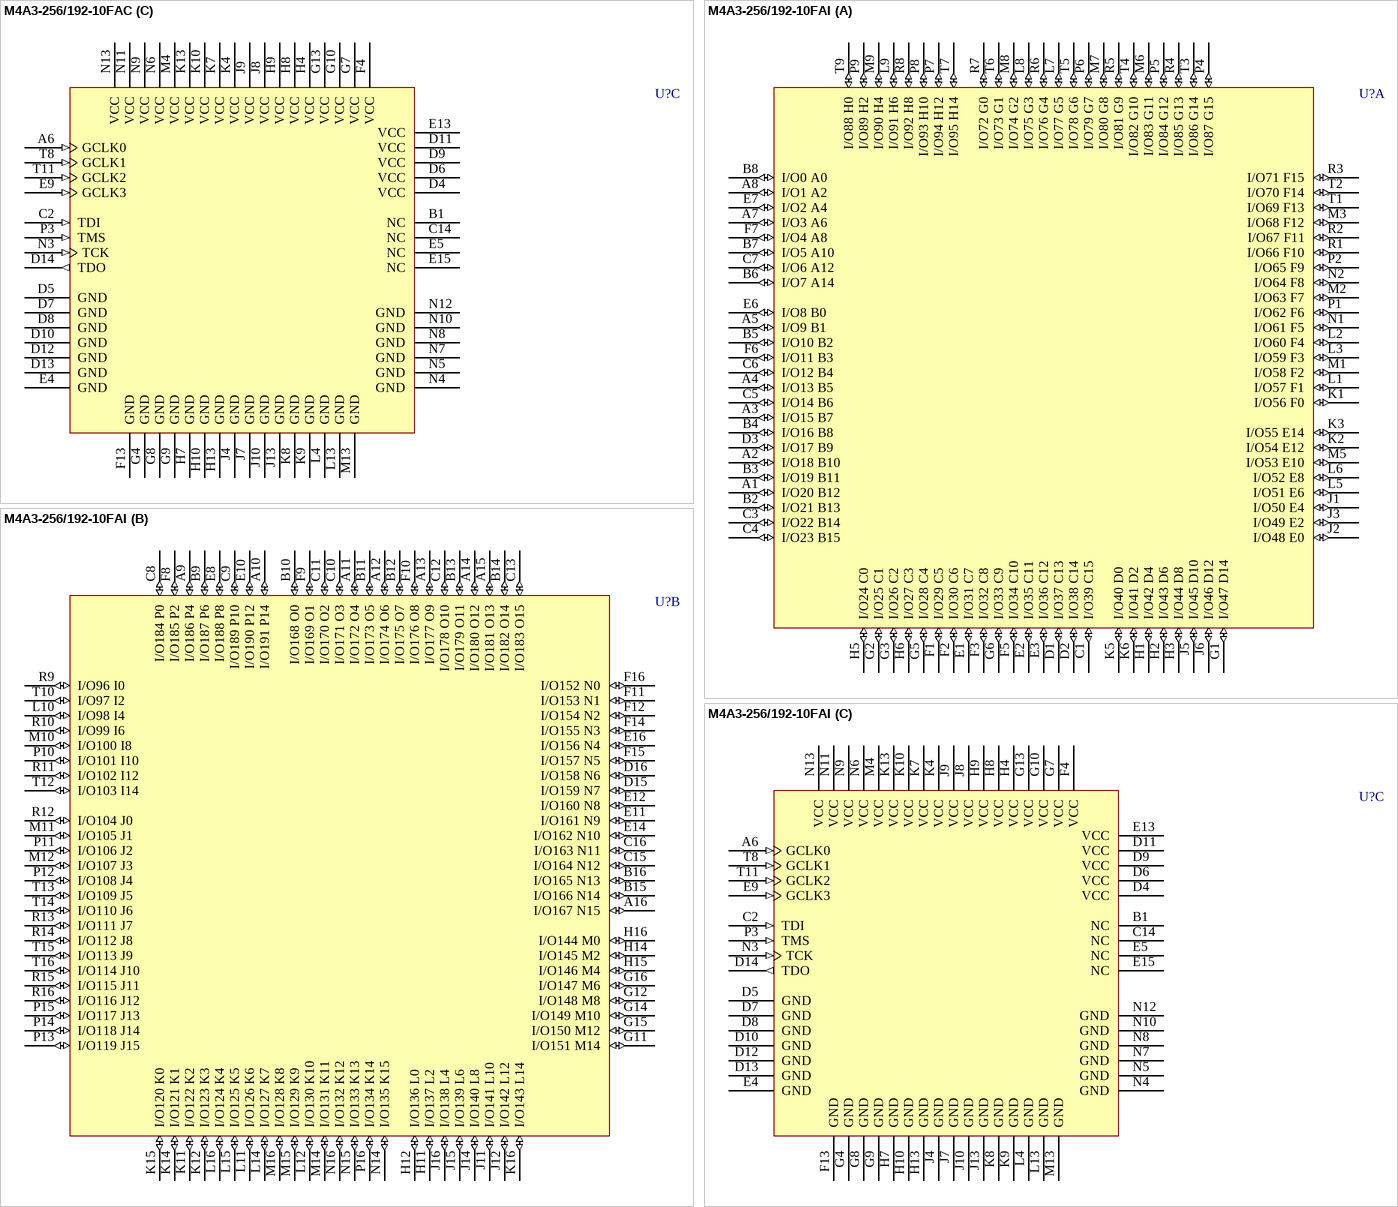
[diagram p74: symbols M4A3-256/192-10FAC to M4A3-256/192-10FAI]

## M4A3-256/192-10FAC
designator U?
High-Performance EE CMOS In-System Programmable Logic; Published: 17-Jul-2002; LatestRevisionDate: 13-Apr-2006; LatestRevisionNote: IPC-7351 Footprint Added.; DatasheetVersion: Feb-2001; PackageVersion: pkg_32, Aug-2005; PackageReference: fpBGA256; Publisher: Altium Limited; PackageDescription: 256-Ball Fine Pitch Ball Grid Array (fpBGA256); Code_IPC: BGA100P16X16-256; ComponentLink1Description: Manufacturer Link; ComponentLink1URL: http://www.latticesemi.com/products/mature/index.cfm; ComponentLink2Description: Datasheet; ComponentLink2URL: http://www.latticesemi.com/account/_download.cfm?AMID=1344
footprint fpBGA256 (BGA, 256-Leads, Body 17x17mm, Pitch 1mm)
3D model M4A3-fpBGA256 (256-Ball Fine Pitch Ball Grid Array (fpBGA256))
part A pins: A1 I/O20 B12 (io), A2 I/O18 B10 (io), A3 I/O15 B7 (io), A4 I/O13 B5 (io), A5 I/O9 B1 (io), A7 I/O3 A6 (io), A8 I/O1 A2 (io), B2 I/O21 B13 (io), B3 I/O19 B11 (io), B4 I/O16 B8 (io), B5 I/O10 B2 (io), B6 I/O7 A14 (io), B7 I/O5 A10 (io), B8 I/O0 A0 (io), C1 I/O39 C15 (io), C3 I/O22 B14 (io), C4 I/O23 B15 (io), C5 I/O14 B6 (io), C6 I/O12 B4 (io), C7 I/O6 A12 (io), D1 I/O37 C13 (io), D2 I/O38 C14 (io), D3 I/O17 B9 (io), E1 I/O31 C7 (io), E2 I/O35 C11 (io), E3 I/O36 C12 (io), E6 I/O8 B0 (io), E7 I/O2 A4 (io), F1 I/O29 C5 (io), F2 I/O30 C6 (io), F3 I/O32 C8 (io), F5 I/O34 C10 (io), F6 I/O11 B3 (io), F7 I/O4 A8 (io), G1 I/O47 D14 (io), G2 I/O25 C1 (io), G3 I/O26 C2 (io), G5 I/O28 C4 (io), G6 I/O33 C9 (io), H1 I/O42 D4 (io), H2 I/O43 D6 (io), H3 I/O44 D8 (io), H5 I/O24 C0 (io), H6 I/O27 C3 (io), J1 I/O50 E4 (io), J2 I/O48 E0 (io), J3 I/O49 E2 (io), J5 I/O45 D10 (io), J6 I/O46 D12 (io), K1 I/O56 F0 (io), K2 I/O54 E12 (io), K3 I/O55 E14 (io), K5 I/O40 D0 (io), K6 I/O41 D2 (io), L1 I/O57 F1 (io), L2 I/O60 F4 (io), L3 I/O59 F3 (io), L5 I/O51 E6 (io), L6 I/O52 E8 (io), L7 I/O77 G5 (io), L8 I/O75 G3 (io), L9 I/O91 H6 (io), M1 I/O58 F2 (io), M2 I/O63 F7 (io), M3 I/O68 F12 (io), M5 I/O53 E10 (io), M6 I/O83 G11 (io), M7 I/O80 G8 (io), M8 I/O74 G2 (io), M9 I/O90 H4 (io), N1 I/O61 F5 (io), N2 I/O64 F8 (io), P1 I/O62 F6 (io), P2 I/O65 F9 (io), P4 I/O87 G15 (io), P5 I/O84 G12 (io), P6 I/O79 G7 (io), P7 I/O94 H12 (io), P8 I/O93 H10 (io), P9 I/O89 H2 (io), R1 I/O66 F10 (io), R2 I/O67 F11 (io), R3 I/O71 F15 (io), R4 I/O85 G13 (io), R5 I/O81 G9 (io), R6 I/O76 G4 (io), R7 I/O72 G0 (io), R8 I/O92 H8 (io), T1 I/O69 F13 (io), T2 I/O70 F14 (io), T3 I/O86 G14 (io), T4 I/O82 G10 (io), T5 I/O78 G6 (io), T6 I/O73 G1 (io), T7 I/O95 H14 (io), T9 I/O88 H0 (io)
part B pins: A9 I/O186 P4 (io), A10 I/O191 P14 (io), A11 I/O172 O4 (io), A12 I/O174 O6 (io), A13 I/O177 O9 (io), A14 I/O180 O12 (io), A15 I/O181 O13 (io), A16 I/O167 N15 (io), B9 I/O187 P6 (io), B10 I/O168 O0 (io), B11 I/O173 O5 (io), B12 I/O175 O7 (io), B13 I/O179 O11 (io), B14 I/O182 O14 (io), B15 I/O166 N14 (io), B16 I/O165 N13 (io), C8 I/O184 P0 (io), C9 I/O189 P10 (io), C10 I/O171 O3 (io), C11 I/O170 O2 (io), C12 I/O178 O10 (io), C13 I/O183 O15 (io), C15 I/O164 N12 (io), C16 I/O163 N11 (io), D15 I/O159 N7 (io), D16 I/O158 N6 (io), E8 I/O188 P8 (io), E10 I/O190 P12 (io), E11 I/O161 N9 (io), E12 I/O160 N8 (io), E14 I/O162 N10 (io), E16 I/O156 N4 (io), F8 I/O185 P2 (io), F9 I/O169 O1 (io), F10 I/O176 O8 (io), F11 I/O153 N1 (io), F12 I/O154 N2 (io), F14 I/O155 N3 (io), F15 I/O157 N5 (io), F16 I/O152 N0 (io), G11 I/O151 M14 (io), G12 I/O148 M8 (io), G14 I/O149 M10 (io), G15 I/O150 M12 (io), G16 I/O147 M6 (io), H11 I/O137 L2 (io), H12 I/O136 L0 (io), H14 I/O145 M2 (io), H15 I/O146 M4 (io), H16 I/O144 M0 (io), J11 I/O141 L10 (io), J12 I/O142 L12 (io), J14 I/O140 L8 (io), J15 I/O139 L6 (io), J16 I/O138 L4 (io), K11 I/O122 K2 (io), K12 I/O123 K3 (io), K14 I/O121 K1 (io), K15 I/O120 K0 (io), K16 I/O143 L14 (io), L10 I/O98 I4 (io), L11 I/O126 K6 (io), L12 I/O130 K10 (io), L14 I/O127 K7 (io), L15 I/O125 K5 (io), L16 I/O124 K4 (io), M10 I/O100 I8 (io), M11 I/O105 J1 (io), M12 I/O107 J3 (io), M14 I/O131 K11 (io), M15 I/O129 K9 (io), M16 I/O128 K8 (io), N14 I/O135 K15 (io), N15 I/O133 K13 (io), N16 I/O132 K12 (io), P10 I/O101 I10 (io), P11 I/O106 J2 (io), P12 I/O108 J4 (io), P13 I/O119 J15 (io), P14 I/O118 J14 (io), P15 I/O117 J13 (io), P16 I/O134 K14 (io), R9 I/O96 I0 (io), R10 I/O99 I6 (io), R11 I/O102 I12 (io), R12 I/O104 J0 (io), R13 I/O111 J7 (io), R14 I/O112 J8 (io), R15 I/O115 J11 (io), R16 I/O116 J12 (io), T10 I/O97 I2 (io), T12 I/O103 I14 (io), T13 I/O109 J5 (io), T14 I/O110 J6 (io), T15 I/O113 J9 (io), T16 I/O114 J10 (io)
part C pins: A6 GCLK0 (in), B1 NC, C2 TDI (in), C14 NC, D4 VCC (power), D5 GND (power), D6 VCC (power), D7 GND (power), D8 GND (power), D9 VCC (power), D10 GND (power), D11 VCC (power), D12 GND (power), D13 GND (power), D14 TDO (out), E4 GND (power), E5 NC, E9 GCLK3 (in), E13 VCC (power), E15 NC, F4 VCC (power), F13 GND (power), G4 GND (power), G7 VCC (power), G8 GND (power), G9 GND (power), G10 VCC (power), G13 VCC (power), H4 VCC (power), H7 GND (power), H8 VCC (power), H9 VCC (power), H10 GND (power), H13 GND (power), J4 GND (power), J7 GND (power), J8 VCC (power), J9 VCC (power), J10 GND (power), J13 GND (power), K4 VCC (power), K7 VCC (power), K8 GND (power), K9 GND (power), K10 VCC (power), K13 VCC (power), L4 GND (power), L13 GND (power), M4 VCC (power), M13 GND (power), N3 TCK (in), N4 GND (power), N5 GND (power), N6 VCC (power), N7 GND (power), N8 GND (power), N9 VCC (power), N10 GND (power), N11 VCC (power), N12 GND (power), N13 VCC (power), P3 TMS (in), T8 GCLK1 (in), T11 GCLK2 (in)

## M4A3-256/192-10FAI
designator U?
High-Performance EE CMOS In-System Programmable Logic; Published: 17-Jul-2002; LatestRevisionDate: 13-Apr-2006; LatestRevisionNote: IPC-7351 Footprint Added.; DatasheetVersion: Feb-2001; PackageVersion: pkg_32, Aug-2005; PackageReference: fpBGA256; Publisher: Altium Limited; PackageDescription: 256-Ball Fine Pitch Ball Grid Array (fpBGA256); Code_IPC: BGA100P16X16-256; ComponentLink1Description: Manufacturer Link; ComponentLink1URL: http://www.latticesemi.com/products/mature/index.cfm; ComponentLink2Description: Datasheet; ComponentLink2URL: http://www.latticesemi.com/account/_download.cfm?AMID=1344
footprint fpBGA256 (BGA, 256-Leads, Body 17x17mm, Pitch 1mm)
3D model M4A3-fpBGA256 (256-Ball Fine Pitch Ball Grid Array (fpBGA256))
part A pins: A1 I/O20 B12 (io), A2 I/O18 B10 (io), A3 I/O15 B7 (io), A4 I/O13 B5 (io), A5 I/O9 B1 (io), A7 I/O3 A6 (io), A8 I/O1 A2 (io), B2 I/O21 B13 (io), B3 I/O19 B11 (io), B4 I/O16 B8 (io), B5 I/O10 B2 (io), B6 I/O7 A14 (io), B7 I/O5 A10 (io), B8 I/O0 A0 (io), C1 I/O39 C15 (io), C3 I/O22 B14 (io), C4 I/O23 B15 (io), C5 I/O14 B6 (io), C6 I/O12 B4 (io), C7 I/O6 A12 (io), D1 I/O37 C13 (io), D2 I/O38 C14 (io), D3 I/O17 B9 (io), E1 I/O31 C7 (io), E2 I/O35 C11 (io), E3 I/O36 C12 (io), E6 I/O8 B0 (io), E7 I/O2 A4 (io), F1 I/O29 C5 (io), F2 I/O30 C6 (io), F3 I/O32 C8 (io), F5 I/O34 C10 (io), F6 I/O11 B3 (io), F7 I/O4 A8 (io), G1 I/O47 D14 (io), G2 I/O25 C1 (io), G3 I/O26 C2 (io), G5 I/O28 C4 (io), G6 I/O33 C9 (io), H1 I/O42 D4 (io), H2 I/O43 D6 (io), H3 I/O44 D8 (io), H5 I/O24 C0 (io), H6 I/O27 C3 (io), J1 I/O50 E4 (io), J2 I/O48 E0 (io), J3 I/O49 E2 (io), J5 I/O45 D10 (io), J6 I/O46 D12 (io), K1 I/O56 F0 (io), K2 I/O54 E12 (io), K3 I/O55 E14 (io), K5 I/O40 D0 (io), K6 I/O41 D2 (io), L1 I/O57 F1 (io), L2 I/O60 F4 (io), L3 I/O59 F3 (io), L5 I/O51 E6 (io), L6 I/O52 E8 (io), L7 I/O77 G5 (io), L8 I/O75 G3 (io), L9 I/O91 H6 (io), M1 I/O58 F2 (io), M2 I/O63 F7 (io), M3 I/O68 F12 (io), M5 I/O53 E10 (io), M6 I/O83 G11 (io), M7 I/O80 G8 (io), M8 I/O74 G2 (io), M9 I/O90 H4 (io), N1 I/O61 F5 (io), N2 I/O64 F8 (io), P1 I/O62 F6 (io), P2 I/O65 F9 (io), P4 I/O87 G15 (io), P5 I/O84 G12 (io), P6 I/O79 G7 (io), P7 I/O94 H12 (io), P8 I/O93 H10 (io), P9 I/O89 H2 (io), R1 I/O66 F10 (io), R2 I/O67 F11 (io), R3 I/O71 F15 (io), R4 I/O85 G13 (io), R5 I/O81 G9 (io), R6 I/O76 G4 (io), R7 I/O72 G0 (io), R8 I/O92 H8 (io), T1 I/O69 F13 (io), T2 I/O70 F14 (io), T3 I/O86 G14 (io), T4 I/O82 G10 (io), T5 I/O78 G6 (io), T6 I/O73 G1 (io), T7 I/O95 H14 (io), T9 I/O88 H0 (io)
part B pins: A9 I/O186 P4 (io), A10 I/O191 P14 (io), A11 I/O172 O4 (io), A12 I/O174 O6 (io), A13 I/O177 O9 (io), A14 I/O180 O12 (io), A15 I/O181 O13 (io), A16 I/O167 N15 (io), B9 I/O187 P6 (io), B10 I/O168 O0 (io), B11 I/O173 O5 (io), B12 I/O175 O7 (io), B13 I/O179 O11 (io), B14 I/O182 O14 (io), B15 I/O166 N14 (io), B16 I/O165 N13 (io), C8 I/O184 P0 (io), C9 I/O189 P10 (io), C10 I/O171 O3 (io), C11 I/O170 O2 (io), C12 I/O178 O10 (io), C13 I/O183 O15 (io), C15 I/O164 N12 (io), C16 I/O163 N11 (io), D15 I/O159 N7 (io), D16 I/O158 N6 (io), E8 I/O188 P8 (io), E10 I/O190 P12 (io), E11 I/O161 N9 (io), E12 I/O160 N8 (io), E14 I/O162 N10 (io), E16 I/O156 N4 (io), F8 I/O185 P2 (io), F9 I/O169 O1 (io), F10 I/O176 O8 (io), F11 I/O153 N1 (io), F12 I/O154 N2 (io), F14 I/O155 N3 (io), F15 I/O157 N5 (io), F16 I/O152 N0 (io), G11 I/O151 M14 (io), G12 I/O148 M8 (io), G14 I/O149 M10 (io), G15 I/O150 M12 (io), G16 I/O147 M6 (io), H11 I/O137 L2 (io), H12 I/O136 L0 (io), H14 I/O145 M2 (io), H15 I/O146 M4 (io), H16 I/O144 M0 (io), J11 I/O141 L10 (io), J12 I/O142 L12 (io), J14 I/O140 L8 (io), J15 I/O139 L6 (io), J16 I/O138 L4 (io), K11 I/O122 K2 (io), K12 I/O123 K3 (io), K14 I/O121 K1 (io), K15 I/O120 K0 (io), K16 I/O143 L14 (io), L10 I/O98 I4 (io), L11 I/O126 K6 (io), L12 I/O130 K10 (io), L14 I/O127 K7 (io), L15 I/O125 K5 (io), L16 I/O124 K4 (io), M10 I/O100 I8 (io), M11 I/O105 J1 (io), M12 I/O107 J3 (io), M14 I/O131 K11 (io), M15 I/O129 K9 (io), M16 I/O128 K8 (io), N14 I/O135 K15 (io), N15 I/O133 K13 (io), N16 I/O132 K12 (io), P10 I/O101 I10 (io), P11 I/O106 J2 (io), P12 I/O108 J4 (io), P13 I/O119 J15 (io), P14 I/O118 J14 (io), P15 I/O117 J13 (io), P16 I/O134 K14 (io), R9 I/O96 I0 (io), R10 I/O99 I6 (io), R11 I/O102 I12 (io), R12 I/O104 J0 (io), R13 I/O111 J7 (io), R14 I/O112 J8 (io), R15 I/O115 J11 (io), R16 I/O116 J12 (io), T10 I/O97 I2 (io), T12 I/O103 I14 (io), T13 I/O109 J5 (io), T14 I/O110 J6 (io), T15 I/O113 J9 (io), T16 I/O114 J10 (io)
part C pins: A6 GCLK0 (in), B1 NC, C2 TDI (in), C14 NC, D4 VCC (power), D5 GND (power), D6 VCC (power), D7 GND (power), D8 GND (power), D9 VCC (power), D10 GND (power), D11 VCC (power), D12 GND (power), D13 GND (power), D14 TDO (out), E4 GND (power), E5 NC, E9 GCLK3 (in), E13 VCC (power), E15 NC, F4 VCC (power), F13 GND (power), G4 GND (power), G7 VCC (power), G8 GND (power), G9 GND (power), G10 VCC (power), G13 VCC (power), H4 VCC (power), H7 GND (power), H8 VCC (power), H9 VCC (power), H10 GND (power), H13 GND (power), J4 GND (power), J7 GND (power), J8 VCC (power), J9 VCC (power), J10 GND (power), J13 GND (power), K4 VCC (power), K7 VCC (power), K8 GND (power), K9 GND (power), K10 VCC (power), K13 VCC (power), L4 GND (power), L13 GND (power), M4 VCC (power), M13 GND (power), N3 TCK (in), N4 GND (power), N5 GND (power), N6 VCC (power), N7 GND (power), N8 GND (power), N9 VCC (power), N10 GND (power), N11 VCC (power), N12 GND (power), N13 VCC (power), P3 TMS (in), T8 GCLK1 (in), T11 GCLK2 (in)

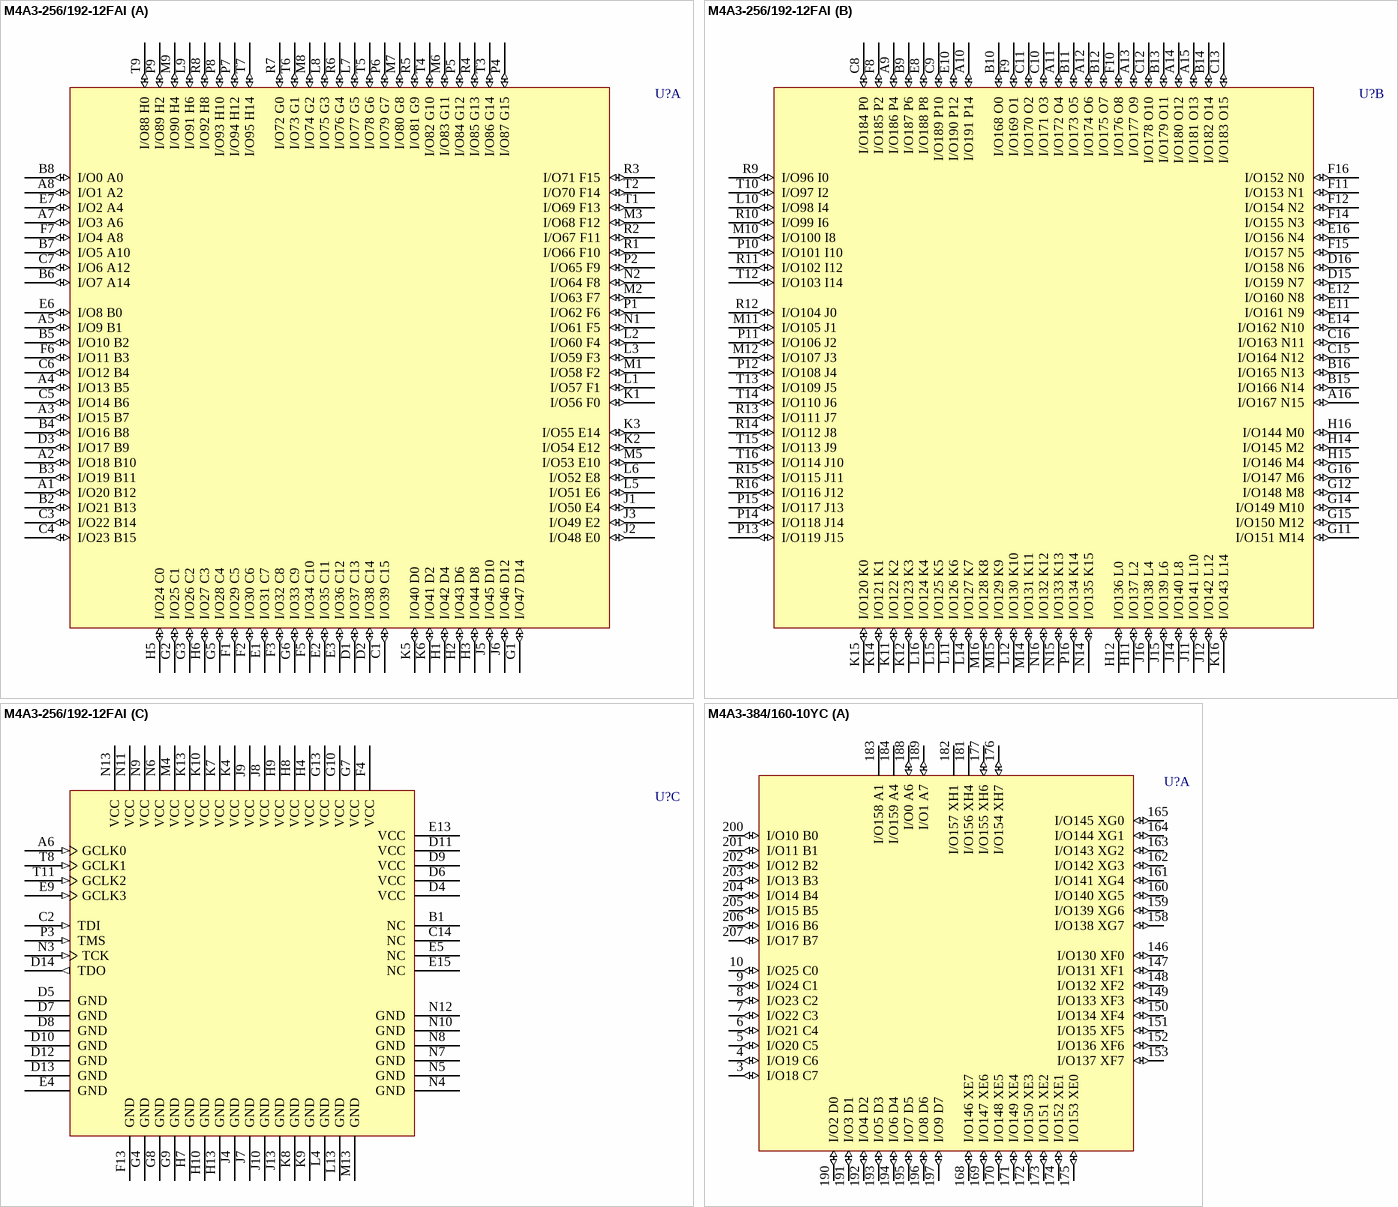
[diagram p75: symbols M4A3-256/192-12FAI to M4A3-384/160-10YC]